# Altium schematic symbol library OOLITEV8_0_2-DEV-V1_1_17_Library.SchLib: 269 symbols (part 8 of 12)
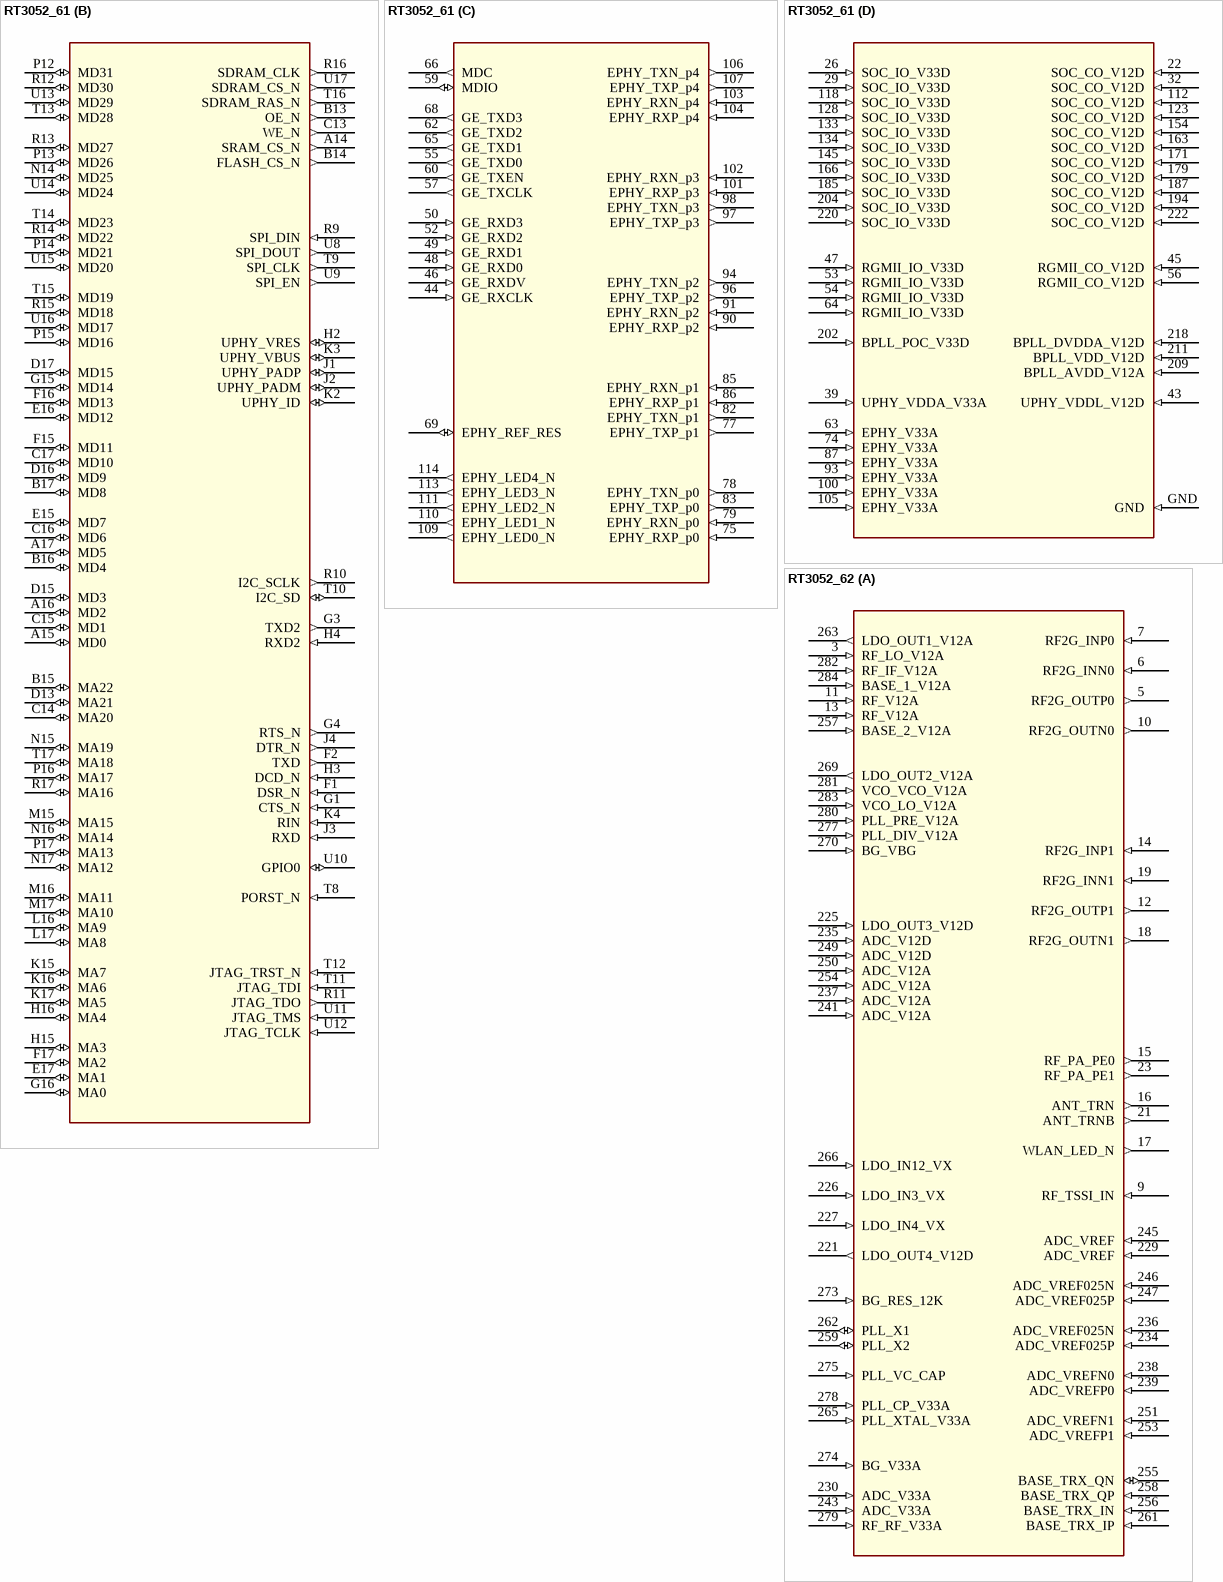
[diagram p145: symbols RT3052_61 to RT3052_62]

## RT3052_61
designator U?
footprint TFBGA289
part A pins: 3 RF_LO_V12A (in), 5 RF2G_OUTP0 (out), 6 RF2G_INN0 (in), 7 RF2G_INP0 (in), 9 RF_TSSI_IN (in), 10 RF2G_OUTN0 (out), 11 RF_V12A (in), 12 RF2G_OUTP1 (out), 13 RF_V12A (in), 14 RF2G_INP1 (in), 15 RF_PA_PE0 (out), 16 ANT_TRN (out), 17 WLAN_LED_N (out), 18 RF2G_OUTN1 (out), 19 RF2G_INN1 (in), 21 ANT_TRNB (out), 23 RF_PA_PE1 (out), 221 LDO_OUT4_V12D (out), 225 LDO_OUT3_V12D (in), 226 LDO_IN3_VX (in), 227 LDO_IN4_VX (in), 229 ADC_VREF (in), 230 ADC_V33A (in), 234 ADC_VREF025P (in), 235 ADC_V12D (in), 236 ADC_VREF025N (in), 237 ADC_V12A (in), 238 ADC_VREFN0 (in), 239 ADC_VREFP0 (in), 241 ADC_V12A (in), 243 ADC_V33A (in), 245 ADC_VREF (in), 246 ADC_VREF025N (in), 247 ADC_VREF025P (in), 249 ADC_V12D (in), 250 ADC_V12A (in), 251 ADC_VREFN1 (in), 253 ADC_VREFP1 (in), 254 ADC_V12A (in), 255 BASE_TRX_QN (io), 256 BASE_TRX_IN (in), 257 BASE_2_V12A (in), 258 BASE_TRX_QP (in), 259 PLL_X2 (io), 261 BASE_TRX_IP (in), 262 PLL_X1 (io), 263 LDO_OUT1_V12A (out), 265 PLL_XTAL_V33A (in), 266 LDO_IN12_VX (in), 269 LDO_OUT2_V12A (out), 270 BG_VBG (in), 273 BG_RES_12K (in), 274 BG_V33A (in), 275 PLL_VC_CAP (in), 277 PLL_DIV_V12A (in), 278 PLL_CP_V33A (in), 279 RF_RF_V33A (in), 280 PLL_PRE_V12A (in), 281 VCO_VCO_V12A (in), 282 RF_IF_V12A (in), 283 VCO_LO_V12A (in), 284 BASE_1_V12A (in)
part B pins: A14 SRAM_CS_N (out), A15 MD0 (io), A16 MD2 (io), A17 MD5 (io), B13 OE_N (out), B14 FLASH_CS_N (out), B15 MA22 (io), B16 MD4 (io), B17 MD8 (io), C13 WE_N (out), C14 MA20 (io), C15 MD1 (io), C16 MD6 (io), C17 MD10 (io), D13 MA21 (io), D15 MD3 (io), D16 MD9 (io), D17 MD15 (io), E15 MD7 (io), E16 MD12 (io), E17 MA1 (io), F1 DSR_N (in), F2 TXD (out), F15 MD11 (io), F16 MD13 (io), F17 MA2 (io), G1 CTS_N (in), G3 TXD2 (out), G4 RTS_N (out), G15 MD14 (io), G16 MA0 (io), H2 UPHY_VRES (io), H3 DCD_N (in), H4 RXD2 (in), H15 MA3 (io), H16 MA4 (io), J1 UPHY_PADP (io), J2 UPHY_PADM (io), J3 RXD (in), J4 DTR_N (out), K2 UPHY_ID (io), K3 UPHY_VBUS (io), K4 RIN (in), K15 MA7 (io), K16 MA6 (io), K17 MA5 (io), L16 MA9 (io), L17 MA8 (io), M15 MA15 (io), M16 MA11 (io), M17 MA10 (io), N14 MD25 (io), N15 MA19 (io), N16 MA14 (io), N17 MA12 (io), P12 MD31 (io), P13 MD26 (io), P14 MD21 (io), P15 MD16 (io), P16 MA17 (io), P17 MA13 (io), R9 SPI_DIN (in), R10 I2C_SCLK (out), R11 JTAG_TDO (out), R12 MD30 (io), R13 MD27 (io), R14 MD22 (io), R15 MD18 (io), R16 SDRAM_CLK (out), R17 MA16 (io), T8 PORST_N (in), T9 SPI_CLK (out), T10 I2C_SD (io), T11 JTAG_TDI (in), T12 JTAG_TRST_N (in), T13 MD28 (io), T14 MD23 (io), T15 MD19 (io), T16 SDRAM_RAS_N (out), T17 MA18 (io), U8 SPI_DOUT (out), U9 SPI_EN (out), U10 GPIO0 (io), U11 JTAG_TMS (in), U12 JTAG_TCLK (in), U13 MD29 (io), U14 MD24 (io), U15 MD20 (io), U16 MD17 (io), U17 SDRAM_CS_N (out)
part C pins: 44 GE_RXCLK (in), 46 GE_RXDV (in), 48 GE_RXD0 (in), 49 GE_RXD1 (in), 50 GE_RXD3 (in), 52 GE_RXD2 (in), 55 GE_TXD0 (out), 57 GE_TXCLK (out), 59 MDIO (io), 60 GE_TXEN (out), 62 GE_TXD2 (out), 65 GE_TXD1 (out), 66 MDC (out), 68 GE_TXD3 (out), 69 EPHY_REF_RES (io), 75 EPHY_RXP_p0 (in), 77 EPHY_TXP_p1 (out), 78 EPHY_TXN_p0 (out), 79 EPHY_RXN_p0 (in), 82 EPHY_TXN_p1 (out), 83 EPHY_TXP_p0 (out), 85 EPHY_RXN_p1 (in), 86 EPHY_RXP_p1 (in), 90 EPHY_RXP_p2 (in), 91 EPHY_RXN_p2 (in), 94 EPHY_TXN_p2 (out), 96 EPHY_TXP_p2 (out), 97 EPHY_TXP_p3 (out), 98 EPHY_TXN_p3 (out), 101 EPHY_RXP_p3 (in), 102 EPHY_RXN_p3 (in), 103 EPHY_RXN_p4 (in), 104 EPHY_RXP_p4 (in), 106 EPHY_TXN_p4 (out), 107 EPHY_TXP_p4 (out), 109 EPHY_LED0_N (out), 110 EPHY_LED1_N (out), 111 EPHY_LED2_N (out), 113 EPHY_LED3_N (out), 114 EPHY_LED4_N (out)
part D pins: 22 SOC_CO_V12D (in), 26 SOC_IO_V33D (in), 29 SOC_IO_V33D (in), 32 SOC_CO_V12D (in), 39 UPHY_VDDA_V33A (in), 43 UPHY_VDDL_V12D (in), 45 RGMII_CO_V12D (in), 47 RGMII_IO_V33D (in), 53 RGMII_IO_V33D (in), 54 RGMII_IO_V33D (in), 56 RGMII_CO_V12D (in), 63 EPHY_V33A (in), 64 RGMII_IO_V33D (in), 74 EPHY_V33A (in), 87 EPHY_V33A (in), 93 EPHY_V33A (in), 100 EPHY_V33A (in), 105 EPHY_V33A (in), 112 SOC_CO_V12D (in), 118 SOC_IO_V33D (in), 123 SOC_CO_V12D (in), 128 SOC_IO_V33D (in), 133 SOC_IO_V33D (in), 134 SOC_IO_V33D (in), 145 SOC_IO_V33D (in), 154 SOC_CO_V12D (in), 163 SOC_CO_V12D (in), 166 SOC_IO_V33D (in), 171 SOC_CO_V12D (in), 179 SOC_CO_V12D (in), 185 SOC_IO_V33D (in), 187 SOC_CO_V12D (in), 194 SOC_CO_V12D (in), 202 BPLL_POC_V33D (in), 204 SOC_IO_V33D (in), 209 BPLL_AVDD_V12A (in), 211 BPLL_VDD_V12D (in), 218 BPLL_DVDDA_V12D (in), 220 SOC_IO_V33D (in), 222 SOC_CO_V12D (in), GND (in)

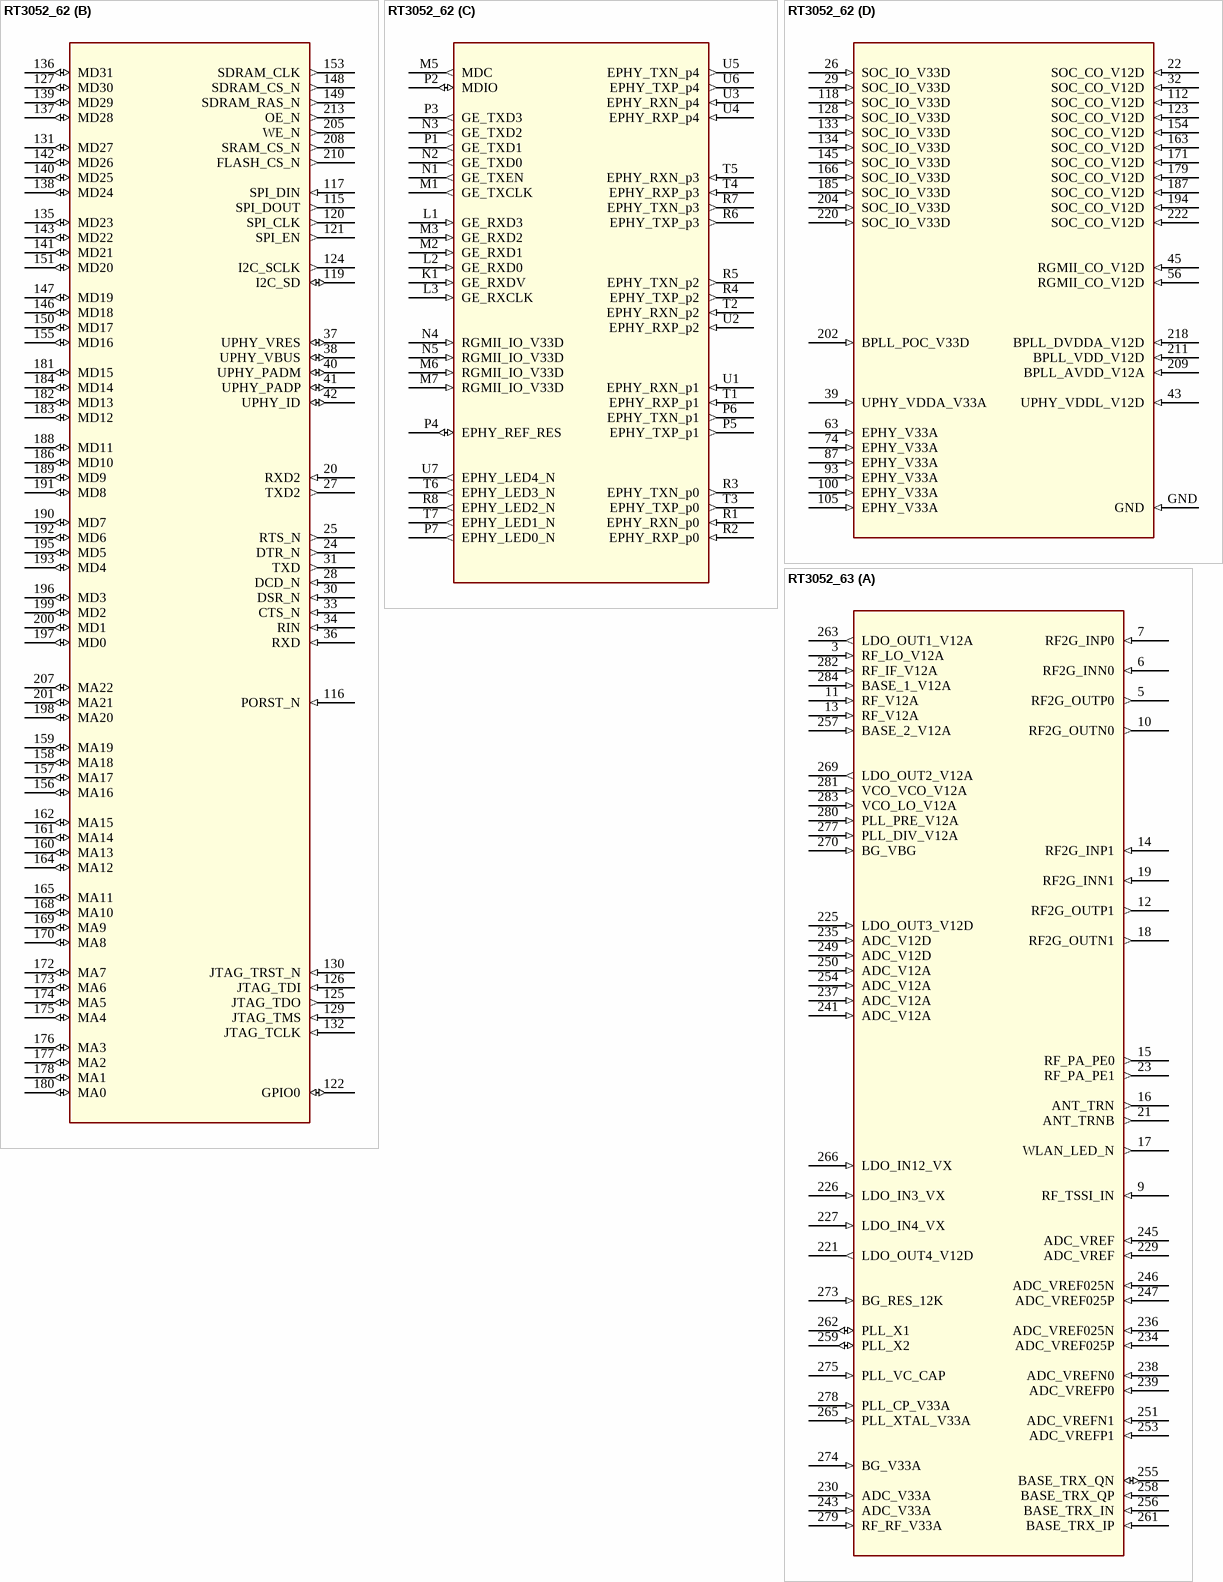
[diagram p79: symbols RT3052_62 to RT3052_63]

## RT3052_62
designator U?
footprint TFBGA289
part A pins: 3 RF_LO_V12A (in), 5 RF2G_OUTP0 (out), 6 RF2G_INN0 (in), 7 RF2G_INP0 (in), 9 RF_TSSI_IN (in), 10 RF2G_OUTN0 (out), 11 RF_V12A (in), 12 RF2G_OUTP1 (out), 13 RF_V12A (in), 14 RF2G_INP1 (in), 15 RF_PA_PE0 (out), 16 ANT_TRN (out), 17 WLAN_LED_N (out), 18 RF2G_OUTN1 (out), 19 RF2G_INN1 (in), 21 ANT_TRNB (out), 23 RF_PA_PE1 (out), 221 LDO_OUT4_V12D (out), 225 LDO_OUT3_V12D (in), 226 LDO_IN3_VX (in), 227 LDO_IN4_VX (in), 229 ADC_VREF (in), 230 ADC_V33A (in), 234 ADC_VREF025P (in), 235 ADC_V12D (in), 236 ADC_VREF025N (in), 237 ADC_V12A (in), 238 ADC_VREFN0 (in), 239 ADC_VREFP0 (in), 241 ADC_V12A (in), 243 ADC_V33A (in), 245 ADC_VREF (in), 246 ADC_VREF025N (in), 247 ADC_VREF025P (in), 249 ADC_V12D (in), 250 ADC_V12A (in), 251 ADC_VREFN1 (in), 253 ADC_VREFP1 (in), 254 ADC_V12A (in), 255 BASE_TRX_QN (io), 256 BASE_TRX_IN (in), 257 BASE_2_V12A (in), 258 BASE_TRX_QP (in), 259 PLL_X2 (io), 261 BASE_TRX_IP (in), 262 PLL_X1 (io), 263 LDO_OUT1_V12A (out), 265 PLL_XTAL_V33A (in), 266 LDO_IN12_VX (in), 269 LDO_OUT2_V12A (out), 270 BG_VBG (in), 273 BG_RES_12K (in), 274 BG_V33A (in), 275 PLL_VC_CAP (in), 277 PLL_DIV_V12A (in), 278 PLL_CP_V33A (in), 279 RF_RF_V33A (in), 280 PLL_PRE_V12A (in), 281 VCO_VCO_V12A (in), 282 RF_IF_V12A (in), 283 VCO_LO_V12A (in), 284 BASE_1_V12A (in)
part B pins: 20 RXD2 (in), 24 DTR_N (out), 25 RTS_N (out), 27 TXD2 (out), 28 DCD_N (in), 30 DSR_N (in), 31 TXD (out), 33 CTS_N (in), 34 RIN (in), 36 RXD (in), 37 UPHY_VRES (io), 38 UPHY_VBUS (io), 40 UPHY_PADM (io), 41 UPHY_PADP (io), 42 UPHY_ID (io), 115 SPI_DOUT (out), 116 PORST_N (in), 117 SPI_DIN (in), 119 I2C_SD (io), 120 SPI_CLK (out), 121 SPI_EN (out), 122 GPIO0 (io), 124 I2C_SCLK (out), 125 JTAG_TDO (out), 126 JTAG_TDI (in), 127 MD30 (io), 129 JTAG_TMS (in), 130 JTAG_TRST_N (in), 131 MD27 (io), 132 JTAG_TCLK (in), 135 MD23 (io), 136 MD31 (io), 137 MD28 (io), 138 MD24 (io), 139 MD29 (io), 140 MD25 (io), 141 MD21 (io), 142 MD26 (io), 143 MD22 (io), 146 MD18 (io), 147 MD19 (io), 148 SDRAM_CS_N (out), 149 SDRAM_RAS_N (out), 150 MD17 (io), 151 MD20 (io), 153 SDRAM_CLK (out), 155 MD16 (io), 156 MA16 (io), 157 MA17 (io), 158 MA18 (io), 159 MA19 (io), 160 MA13 (io), 161 MA14 (io), 162 MA15 (io), 164 MA12 (io), 165 MA11 (io), 168 MA10 (io), 169 MA9 (io), 170 MA8 (io), 172 MA7 (io), 173 MA6 (io), 174 MA5 (io), 175 MA4 (io), 176 MA3 (io), 177 MA2 (io), 178 MA1 (io), 180 MA0 (io), 181 MD15 (io), 182 MD13 (io), 183 MD12 (io), 184 MD14 (io), 186 MD10 (io), 188 MD11 (io), 189 MD9 (io), 190 MD7 (io), 191 MD8 (io), 192 MD6 (io), 193 MD4 (io), 195 MD5 (io), 196 MD3 (io), 197 MD0 (io), 198 MA20 (io), 199 MD2 (io), 200 MD1 (io), 201 MA21 (io), 205 WE_N (out), 207 MA22 (io), 208 SRAM_CS_N (out), 210 FLASH_CS_N (out), 213 OE_N (out)
part C pins: K1 GE_RXDV (in), L1 GE_RXD3 (in), L2 GE_RXD0 (in), L3 GE_RXCLK (in), M1 GE_TXCLK (out), M2 GE_RXD1 (in), M3 GE_RXD2 (in), M5 MDC (out), M6 RGMII_IO_V33D (in), M7 RGMII_IO_V33D (in), N1 GE_TXEN (out), N2 GE_TXD0 (out), N3 GE_TXD2 (out), N4 RGMII_IO_V33D (in), N5 RGMII_IO_V33D (in), P1 GE_TXD1 (out), P2 MDIO (io), P3 GE_TXD3 (out), P4 EPHY_REF_RES (io), P5 EPHY_TXP_p1 (out), P6 EPHY_TXN_p1 (out), P7 EPHY_LED0_N (out), R1 EPHY_RXN_p0 (in), R2 EPHY_RXP_p0 (in), R3 EPHY_TXN_p0 (out), R4 EPHY_TXP_p2 (out), R5 EPHY_TXN_p2 (out), R6 EPHY_TXP_p3 (out), R7 EPHY_TXN_p3 (out), R8 EPHY_LED2_N (out), T1 EPHY_RXP_p1 (in), T2 EPHY_RXN_p2 (in), T3 EPHY_TXP_p0 (out), T4 EPHY_RXP_p3 (in), T5 EPHY_RXN_p3 (in), T6 EPHY_LED3_N (out), T7 EPHY_LED1_N (out), U1 EPHY_RXN_p1 (in), U2 EPHY_RXP_p2 (in), U3 EPHY_RXN_p4 (in), U4 EPHY_RXP_p4 (in), U5 EPHY_TXN_p4 (out), U6 EPHY_TXP_p4 (out), U7 EPHY_LED4_N (out)
part D pins: 22 SOC_CO_V12D (in), 26 SOC_IO_V33D (in), 29 SOC_IO_V33D (in), 32 SOC_CO_V12D (in), 39 UPHY_VDDA_V33A (in), 43 UPHY_VDDL_V12D (in), 45 RGMII_CO_V12D (in), 56 RGMII_CO_V12D (in), 63 EPHY_V33A (in), 74 EPHY_V33A (in), 87 EPHY_V33A (in), 93 EPHY_V33A (in), 100 EPHY_V33A (in), 105 EPHY_V33A (in), 112 SOC_CO_V12D (in), 118 SOC_IO_V33D (in), 123 SOC_CO_V12D (in), 128 SOC_IO_V33D (in), 133 SOC_IO_V33D (in), 134 SOC_IO_V33D (in), 145 SOC_IO_V33D (in), 154 SOC_CO_V12D (in), 163 SOC_CO_V12D (in), 166 SOC_IO_V33D (in), 171 SOC_CO_V12D (in), 179 SOC_CO_V12D (in), 185 SOC_IO_V33D (in), 187 SOC_CO_V12D (in), 194 SOC_CO_V12D (in), 202 BPLL_POC_V33D (in), 204 SOC_IO_V33D (in), 209 BPLL_AVDD_V12A (in), 211 BPLL_VDD_V12D (in), 218 BPLL_DVDDA_V12D (in), 220 SOC_IO_V33D (in), 222 SOC_CO_V12D (in), GND (in)

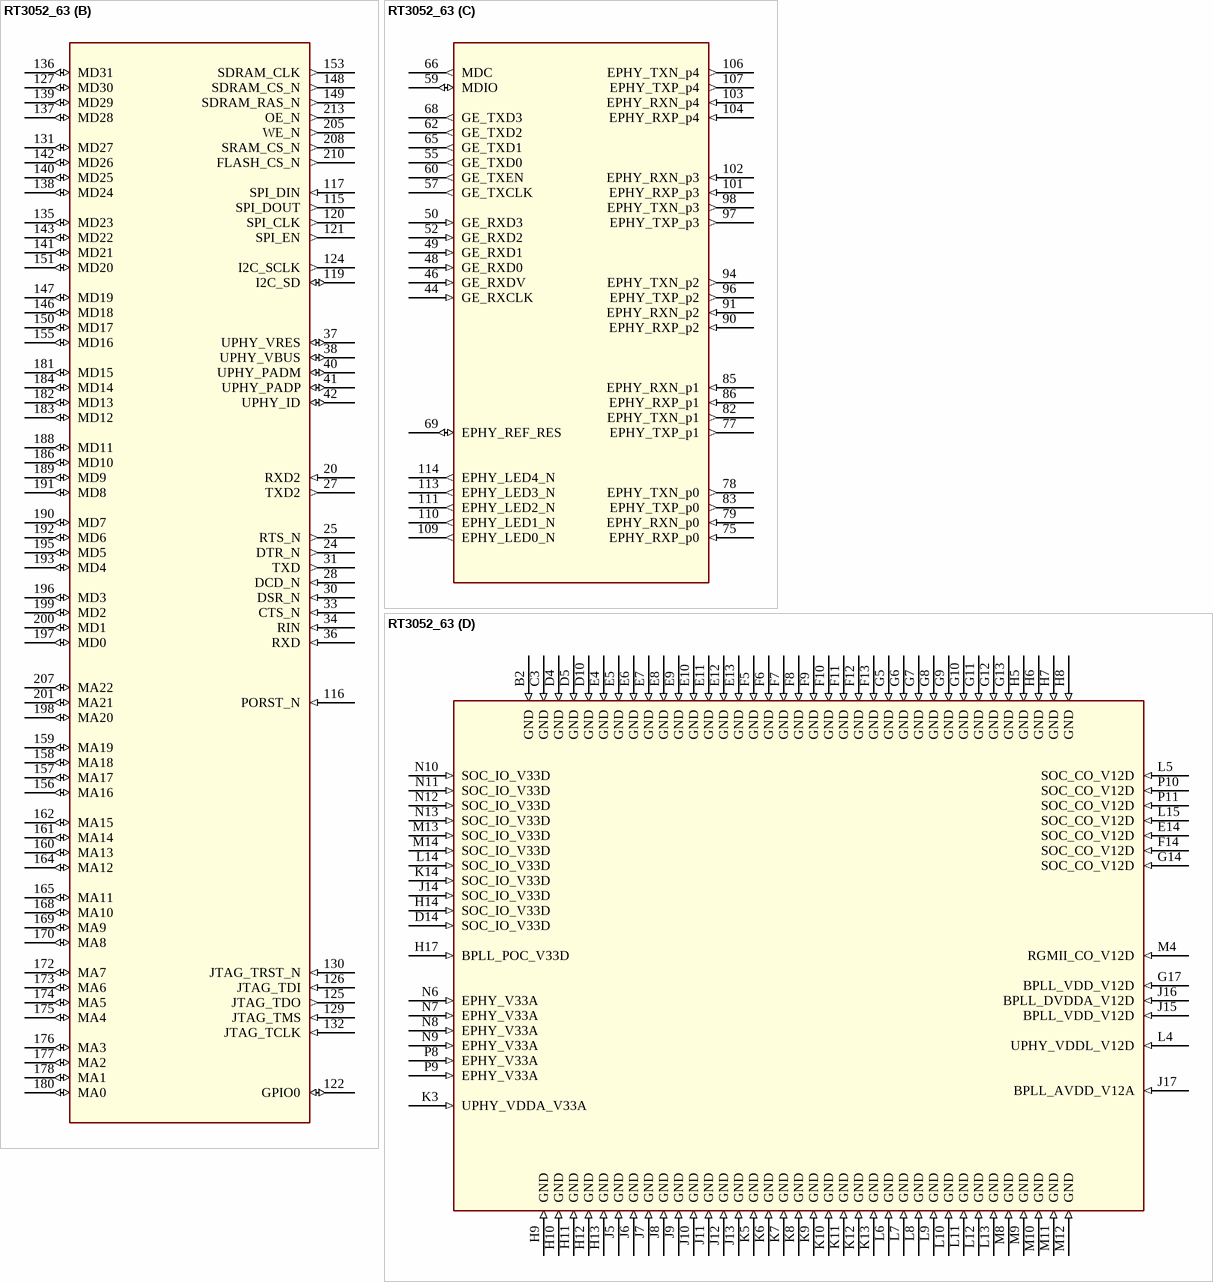
[diagram p80: symbol RT3052_63]

## RT3052_63
designator U?
footprint TFBGA289
part A pins: 3 RF_LO_V12A (in), 5 RF2G_OUTP0 (out), 6 RF2G_INN0 (in), 7 RF2G_INP0 (in), 9 RF_TSSI_IN (in), 10 RF2G_OUTN0 (out), 11 RF_V12A (in), 12 RF2G_OUTP1 (out), 13 RF_V12A (in), 14 RF2G_INP1 (in), 15 RF_PA_PE0 (out), 16 ANT_TRN (out), 17 WLAN_LED_N (out), 18 RF2G_OUTN1 (out), 19 RF2G_INN1 (in), 21 ANT_TRNB (out), 23 RF_PA_PE1 (out), 221 LDO_OUT4_V12D (out), 225 LDO_OUT3_V12D (in), 226 LDO_IN3_VX (in), 227 LDO_IN4_VX (in), 229 ADC_VREF (in), 230 ADC_V33A (in), 234 ADC_VREF025P (in), 235 ADC_V12D (in), 236 ADC_VREF025N (in), 237 ADC_V12A (in), 238 ADC_VREFN0 (in), 239 ADC_VREFP0 (in), 241 ADC_V12A (in), 243 ADC_V33A (in), 245 ADC_VREF (in), 246 ADC_VREF025N (in), 247 ADC_VREF025P (in), 249 ADC_V12D (in), 250 ADC_V12A (in), 251 ADC_VREFN1 (in), 253 ADC_VREFP1 (in), 254 ADC_V12A (in), 255 BASE_TRX_QN (io), 256 BASE_TRX_IN (in), 257 BASE_2_V12A (in), 258 BASE_TRX_QP (in), 259 PLL_X2 (io), 261 BASE_TRX_IP (in), 262 PLL_X1 (io), 263 LDO_OUT1_V12A (out), 265 PLL_XTAL_V33A (in), 266 LDO_IN12_VX (in), 269 LDO_OUT2_V12A (out), 270 BG_VBG (in), 273 BG_RES_12K (in), 274 BG_V33A (in), 275 PLL_VC_CAP (in), 277 PLL_DIV_V12A (in), 278 PLL_CP_V33A (in), 279 RF_RF_V33A (in), 280 PLL_PRE_V12A (in), 281 VCO_VCO_V12A (in), 282 RF_IF_V12A (in), 283 VCO_LO_V12A (in), 284 BASE_1_V12A (in)
part B pins: 20 RXD2 (in), 24 DTR_N (out), 25 RTS_N (out), 27 TXD2 (out), 28 DCD_N (in), 30 DSR_N (in), 31 TXD (out), 33 CTS_N (in), 34 RIN (in), 36 RXD (in), 37 UPHY_VRES (io), 38 UPHY_VBUS (io), 40 UPHY_PADM (io), 41 UPHY_PADP (io), 42 UPHY_ID (io), 115 SPI_DOUT (out), 116 PORST_N (in), 117 SPI_DIN (in), 119 I2C_SD (io), 120 SPI_CLK (out), 121 SPI_EN (out), 122 GPIO0 (io), 124 I2C_SCLK (out), 125 JTAG_TDO (out), 126 JTAG_TDI (in), 127 MD30 (io), 129 JTAG_TMS (in), 130 JTAG_TRST_N (in), 131 MD27 (io), 132 JTAG_TCLK (in), 135 MD23 (io), 136 MD31 (io), 137 MD28 (io), 138 MD24 (io), 139 MD29 (io), 140 MD25 (io), 141 MD21 (io), 142 MD26 (io), 143 MD22 (io), 146 MD18 (io), 147 MD19 (io), 148 SDRAM_CS_N (out), 149 SDRAM_RAS_N (out), 150 MD17 (io), 151 MD20 (io), 153 SDRAM_CLK (out), 155 MD16 (io), 156 MA16 (io), 157 MA17 (io), 158 MA18 (io), 159 MA19 (io), 160 MA13 (io), 161 MA14 (io), 162 MA15 (io), 164 MA12 (io), 165 MA11 (io), 168 MA10 (io), 169 MA9 (io), 170 MA8 (io), 172 MA7 (io), 173 MA6 (io), 174 MA5 (io), 175 MA4 (io), 176 MA3 (io), 177 MA2 (io), 178 MA1 (io), 180 MA0 (io), 181 MD15 (io), 182 MD13 (io), 183 MD12 (io), 184 MD14 (io), 186 MD10 (io), 188 MD11 (io), 189 MD9 (io), 190 MD7 (io), 191 MD8 (io), 192 MD6 (io), 193 MD4 (io), 195 MD5 (io), 196 MD3 (io), 197 MD0 (io), 198 MA20 (io), 199 MD2 (io), 200 MD1 (io), 201 MA21 (io), 205 WE_N (out), 207 MA22 (io), 208 SRAM_CS_N (out), 210 FLASH_CS_N (out), 213 OE_N (out)
part C pins: 44 GE_RXCLK (in), 46 GE_RXDV (in), 48 GE_RXD0 (in), 49 GE_RXD1 (in), 50 GE_RXD3 (in), 52 GE_RXD2 (in), 55 GE_TXD0 (out), 57 GE_TXCLK (out), 59 MDIO (io), 60 GE_TXEN (out), 62 GE_TXD2 (out), 65 GE_TXD1 (out), 66 MDC (out), 68 GE_TXD3 (out), 69 EPHY_REF_RES (io), 75 EPHY_RXP_p0 (in), 77 EPHY_TXP_p1 (out), 78 EPHY_TXN_p0 (out), 79 EPHY_RXN_p0 (in), 82 EPHY_TXN_p1 (out), 83 EPHY_TXP_p0 (out), 85 EPHY_RXN_p1 (in), 86 EPHY_RXP_p1 (in), 90 EPHY_RXP_p2 (in), 91 EPHY_RXN_p2 (in), 94 EPHY_TXN_p2 (out), 96 EPHY_TXP_p2 (out), 97 EPHY_TXP_p3 (out), 98 EPHY_TXN_p3 (out), 101 EPHY_RXP_p3 (in), 102 EPHY_RXN_p3 (in), 103 EPHY_RXN_p4 (in), 104 EPHY_RXP_p4 (in), 106 EPHY_TXN_p4 (out), 107 EPHY_TXP_p4 (out), 109 EPHY_LED0_N (out), 110 EPHY_LED1_N (out), 111 EPHY_LED2_N (out), 113 EPHY_LED3_N (out), 114 EPHY_LED4_N (out)
part D pins: B2 GND (in), C3 GND (in), D4 GND (in), D5 GND (in), D10 GND (in), D14 SOC_IO_V33D (in), E4 GND (in), E5 GND (in), E6 GND (in), E7 GND (in), E8 GND (in), E9 GND (in), E10 GND (in), E11 GND (in), E12 GND (in), E13 GND (in), E14 SOC_CO_V12D (in), F5 GND (in), F6 GND (in), F7 GND (in), F8 GND (in), F9 GND (in), F10 GND (in), F11 GND (in), F12 GND (in), F13 GND (in), F14 SOC_CO_V12D (in), G5 GND (in), G6 GND (in), G7 GND (in), G8 GND (in), G9 GND (in), G10 GND (in), G11 GND (in), G12 GND (in), G13 GND (in), G14 SOC_CO_V12D (in), G17 BPLL_VDD_V12D (in), H5 GND (in), H6 GND (in), H7 GND (in), H8 GND (in), H9 GND (in), H10 GND (in), H11 GND (in), H12 GND (in), H13 GND (in), H14 SOC_IO_V33D (in), H17 BPLL_POC_V33D (in), J5 GND (in), J6 GND (in), J7 GND (in), J8 GND (in), J9 GND (in), J10 GND (in), J11 GND (in), J12 GND (in), J13 GND (in), J14 SOC_IO_V33D (in), J15 BPLL_VDD_V12D (in), J16 BPLL_DVDDA_V12D (in), J17 BPLL_AVDD_V12A (in), K3 UPHY_VDDA_V33A (in), K5 GND (in), K6 GND (in), K7 GND (in), K8 GND (in), K9 GND (in), K10 GND (in), K11 GND (in), K12 GND (in), K13 GND (in), K14 SOC_IO_V33D (in), L4 UPHY_VDDL_V12D (in), L5 SOC_CO_V12D (in), L6 GND (in), L7 GND (in), L8 GND (in), L9 GND (in), L10 GND (in), L11 GND (in), L12 GND (in), L13 GND (in), L14 SOC_IO_V33D (in), L15 SOC_CO_V12D (in), M4 RGMII_CO_V12D (in), M8 GND (in), M9 GND (in), M10 GND (in), M11 GND (in), M12 GND (in), M13 SOC_IO_V33D (in), M14 SOC_IO_V33D (in), N6 EPHY_V33A (in), N7 EPHY_V33A (in), N8 EPHY_V33A (in), N9 EPHY_V33A (in), N10 SOC_IO_V33D (in), N11 SOC_IO_V33D (in), N12 SOC_IO_V33D (in), N13 SOC_IO_V33D (in), P8 EPHY_V33A (in), P9 EPHY_V33A (in), P10 SOC_CO_V12D (in), P11 SOC_CO_V12D (in)

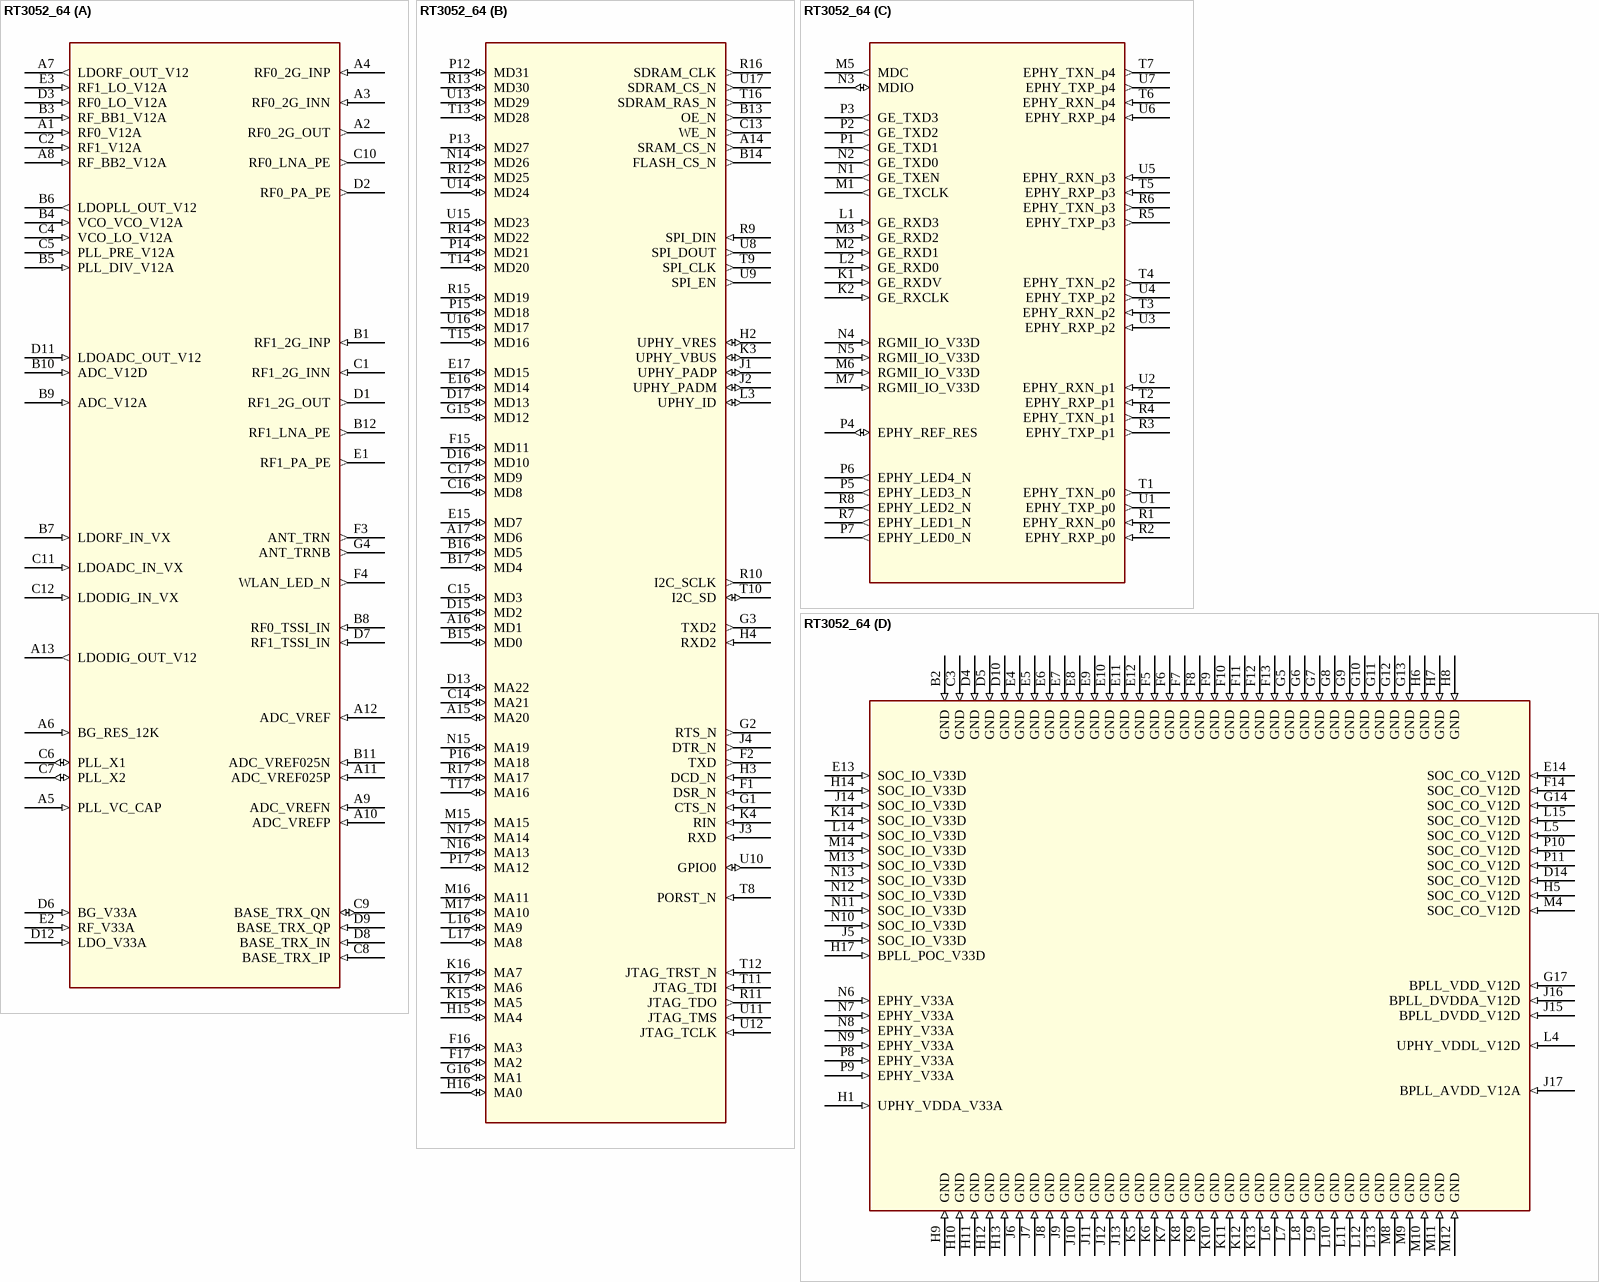
[diagram p81: symbol RT3052_64]

## RT3052_64
designator U?
footprint TFBGA289
part A pins: A1 RF0_V12A (in), A2 RF0_2G_OUT (out), A3 RF0_2G_INN (in), A4 RF0_2G_INP (in), A5 PLL_VC_CAP (in), A6 BG_RES_12K (in), A7 LDORF_OUT_V12 (out), A8 RF_BB2_V12A (in), A9 ADC_VREFN (in), A10 ADC_VREFP (in), A11 ADC_VREF025P (in), A12 ADC_VREF (in), A13 LDODIG_OUT_V12 (out), B1 RF1_2G_INP (in), B3 RF_BB1_V12A (in), B4 VCO_VCO_V12A (in), B5 PLL_DIV_V12A (in), B6 LDOPLL_OUT_V12 (out), B7 LDORF_IN_VX (in), B8 RF0_TSSI_IN (in), B9 ADC_V12A (in), B10 ADC_V12D (in), B11 ADC_VREF025N (in), B12 RF1_LNA_PE (out), C1 RF1_2G_INN (in), C2 RF1_V12A (in), C4 VCO_LO_V12A (in), C5 PLL_PRE_V12A (in), C6 PLL_X1 (io), C7 PLL_X2 (io), C8 BASE_TRX_IP (in), C9 BASE_TRX_QN (io), C10 RF0_LNA_PE (out), C11 LDOADC_IN_VX (in), C12 LDODIG_IN_VX (in), D1 RF1_2G_OUT (out), D2 RF0_PA_PE (out), D3 RF0_LO_V12A (in), D6 BG_V33A (in), D7 RF1_TSSI_IN (in), D8 BASE_TRX_IN (in), D9 BASE_TRX_QP (in), D11 LDOADC_OUT_V12 (in), D12 LDO_V33A (in), E1 RF1_PA_PE (out), E2 RF_V33A (in), E3 RF1_LO_V12A (in), F3 ANT_TRN (out), F4 WLAN_LED_N (out), G4 ANT_TRNB (out)
part B pins: A14 SRAM_CS_N (out), A15 MA20 (io), A16 MD1 (io), A17 MD6 (io), B13 OE_N (out), B14 FLASH_CS_N (out), B15 MD0 (io), B16 MD5 (io), B17 MD4 (io), C13 WE_N (out), C14 MA21 (io), C15 MD3 (io), C16 MD8 (io), C17 MD9 (io), D13 MA22 (io), D15 MD2 (io), D16 MD10 (io), D17 MD13 (io), E15 MD7 (io), E16 MD14 (io), E17 MD15 (io), F1 DSR_N (in), F2 TXD (out), F15 MD11 (io), F16 MA3 (io), F17 MA2 (io), G1 CTS_N (in), G2 RTS_N (out), G3 TXD2 (out), G15 MD12 (io), G16 MA1 (io), H2 UPHY_VRES (io), H3 DCD_N (in), H4 RXD2 (in), H15 MA4 (io), H16 MA0 (io), J1 UPHY_PADP (io), J2 UPHY_PADM (io), J3 RXD (in), J4 DTR_N (out), K3 UPHY_VBUS (io), K4 RIN (in), K15 MA5 (io), K16 MA7 (io), K17 MA6 (io), L3 UPHY_ID (io), L16 MA9 (io), L17 MA8 (io), M15 MA15 (io), M16 MA11 (io), M17 MA10 (io), N14 MD26 (io), N15 MA19 (io), N16 MA13 (io), N17 MA14 (io), P12 MD31 (io), P13 MD27 (io), P14 MD21 (io), P15 MD18 (io), P16 MA18 (io), P17 MA12 (io), R9 SPI_DIN (in), R10 I2C_SCLK (out), R11 JTAG_TDO (out), R12 MD25 (io), R13 MD30 (io), R14 MD22 (io), R15 MD19 (io), R16 SDRAM_CLK (out), R17 MA17 (io), T8 PORST_N (in), T9 SPI_CLK (out), T10 I2C_SD (io), T11 JTAG_TDI (in), T12 JTAG_TRST_N (in), T13 MD28 (io), T14 MD20 (io), T15 MD16 (io), T16 SDRAM_RAS_N (out), T17 MA16 (io), U8 SPI_DOUT (out), U9 SPI_EN (out), U10 GPIO0 (io), U11 JTAG_TMS (in), U12 JTAG_TCLK (in), U13 MD29 (io), U14 MD24 (io), U15 MD23 (io), U16 MD17 (io), U17 SDRAM_CS_N (out)
part C pins: K1 GE_RXDV (in), K2 GE_RXCLK (in), L1 GE_RXD3 (in), L2 GE_RXD0 (in), M1 GE_TXCLK (out), M2 GE_RXD1 (in), M3 GE_RXD2 (in), M5 MDC (out), M6 RGMII_IO_V33D (in), M7 RGMII_IO_V33D (in), N1 GE_TXEN (out), N2 GE_TXD0 (out), N3 MDIO (io), N4 RGMII_IO_V33D (in), N5 RGMII_IO_V33D (in), P1 GE_TXD1 (out), P2 GE_TXD2 (out), P3 GE_TXD3 (out), P4 EPHY_REF_RES (io), P5 EPHY_LED3_N (out), P6 EPHY_LED4_N (out), P7 EPHY_LED0_N (out), R1 EPHY_RXN_p0 (in), R2 EPHY_RXP_p0 (in), R3 EPHY_TXP_p1 (out), R4 EPHY_TXN_p1 (out), R5 EPHY_TXP_p3 (out), R6 EPHY_TXN_p3 (out), R7 EPHY_LED1_N (out), R8 EPHY_LED2_N (out), T1 EPHY_TXN_p0 (out), T2 EPHY_RXP_p1 (in), T3 EPHY_RXN_p2 (in), T4 EPHY_TXN_p2 (out), T5 EPHY_RXP_p3 (in), T6 EPHY_RXN_p4 (in), T7 EPHY_TXN_p4 (out), U1 EPHY_TXP_p0 (out), U2 EPHY_RXN_p1 (in), U3 EPHY_RXP_p2 (in), U4 EPHY_TXP_p2 (out), U5 EPHY_RXN_p3 (in), U6 EPHY_RXP_p4 (in), U7 EPHY_TXP_p4 (out)
part D pins: B2 GND (in), C3 GND (in), D4 GND (in), D5 GND (in), D10 GND (in), D14 SOC_CO_V12D (in), E4 GND (in), E5 GND (in), E6 GND (in), E7 GND (in), E8 GND (in), E9 GND (in), E10 GND (in), E11 GND (in), E12 GND (in), E13 SOC_IO_V33D (in), E14 SOC_CO_V12D (in), F5 GND (in), F6 GND (in), F7 GND (in), F8 GND (in), F9 GND (in), F10 GND (in), F11 GND (in), F12 GND (in), F13 GND (in), F14 SOC_CO_V12D (in), G5 GND (in), G6 GND (in), G7 GND (in), G8 GND (in), G9 GND (in), G10 GND (in), G11 GND (in), G12 GND (in), G13 GND (in), G14 SOC_CO_V12D (in), G17 BPLL_VDD_V12D (in), H1 UPHY_VDDA_V33A (in), H5 SOC_CO_V12D (in), H6 GND (in), H7 GND (in), H8 GND (in), H9 GND (in), H10 GND (in), H11 GND (in), H12 GND (in), H13 GND (in), H14 SOC_IO_V33D (in), H17 BPLL_POC_V33D (in), J5 SOC_IO_V33D (in), J6 GND (in), J7 GND (in), J8 GND (in), J9 GND (in), J10 GND (in), J11 GND (in), J12 GND (in), J13 GND (in), J14 SOC_IO_V33D (in), J15 BPLL_DVDD_V12D (in), J16 BPLL_DVDDA_V12D (in), J17 BPLL_AVDD_V12A (in), K5 GND (in), K6 GND (in), K7 GND (in), K8 GND (in), K9 GND (in), K10 GND (in), K11 GND (in), K12 GND (in), K13 GND (in), K14 SOC_IO_V33D (in), L4 UPHY_VDDL_V12D (in), L5 SOC_CO_V12D (in), L6 GND (in), L7 GND (in), L8 GND (in), L9 GND (in), L10 GND (in), L11 GND (in), L12 GND (in), L13 GND (in), L14 SOC_IO_V33D (in), L15 SOC_CO_V12D (in), M4 SOC_CO_V12D (in), M8 GND (in), M9 GND (in), M10 GND (in), M11 GND (in), M12 GND (in), M13 SOC_IO_V33D (in), M14 SOC_IO_V33D (in), N6 EPHY_V33A (in), N7 EPHY_V33A (in), N8 EPHY_V33A (in), N9 EPHY_V33A (in), N10 SOC_IO_V33D (in), N11 SOC_IO_V33D (in), N12 SOC_IO_V33D (in), N13 SOC_IO_V33D (in), P8 EPHY_V33A (in), P9 EPHY_V33A (in), P10 SOC_CO_V12D (in), P11 SOC_CO_V12D (in)

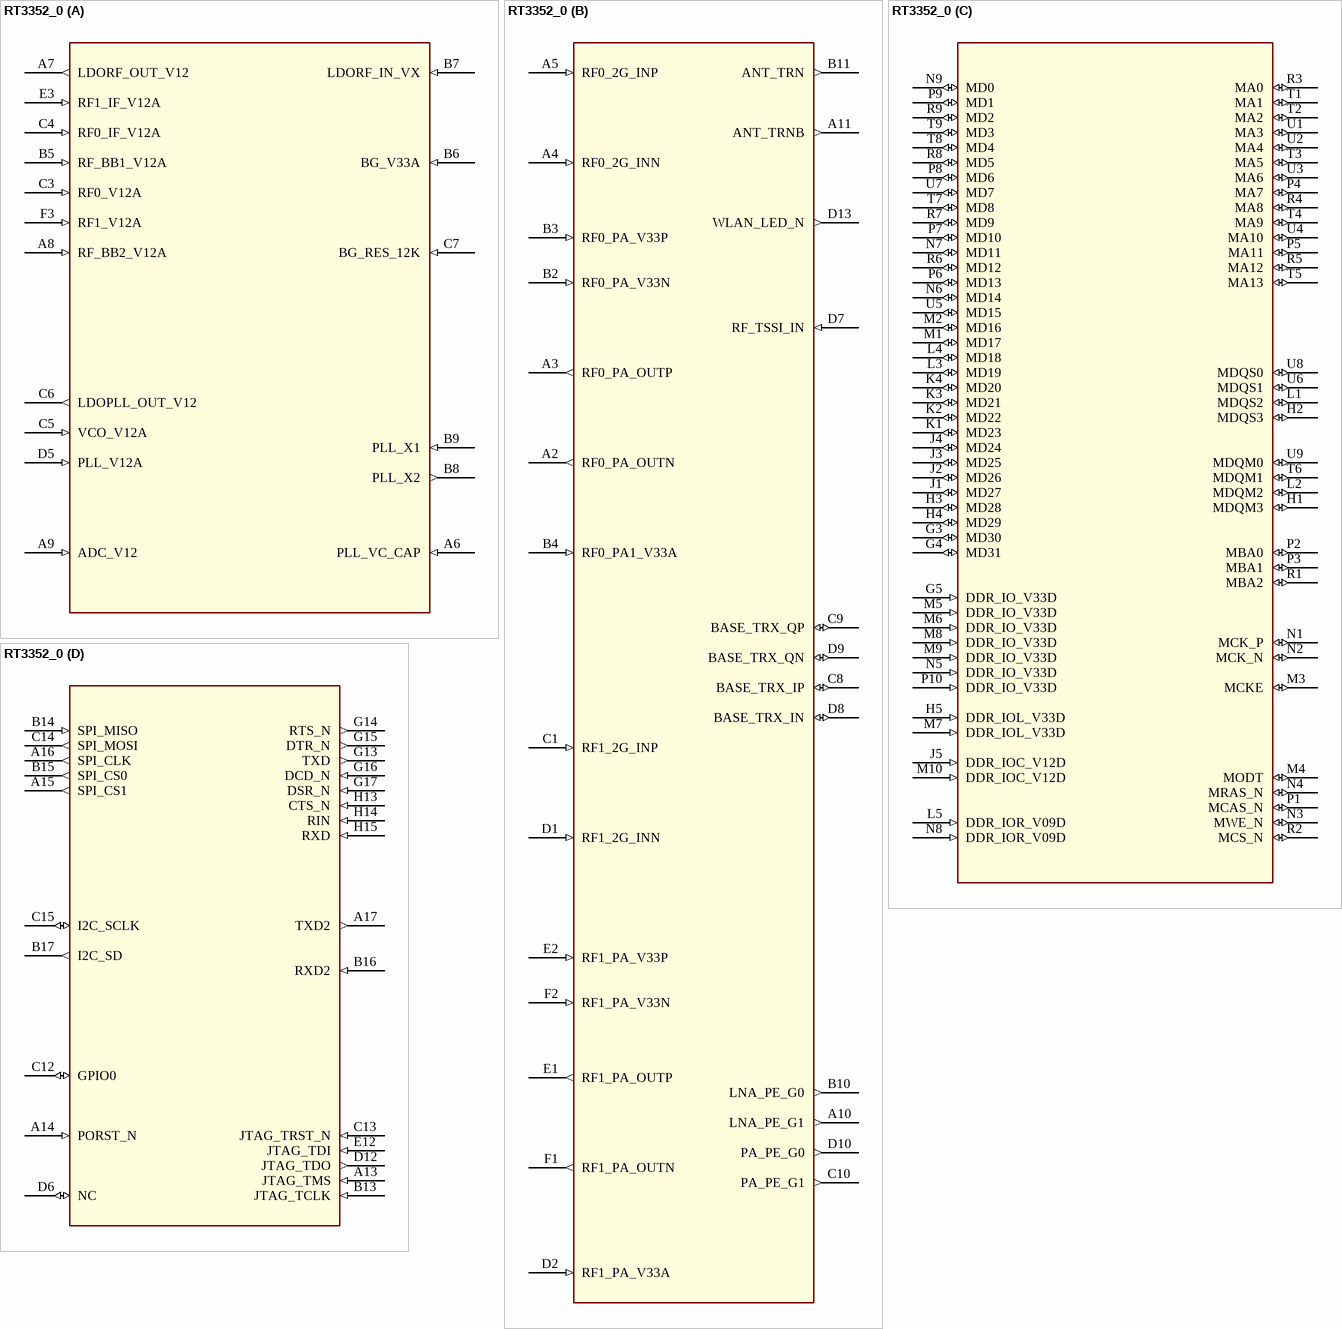
[diagram p82: symbol RT3352_0]

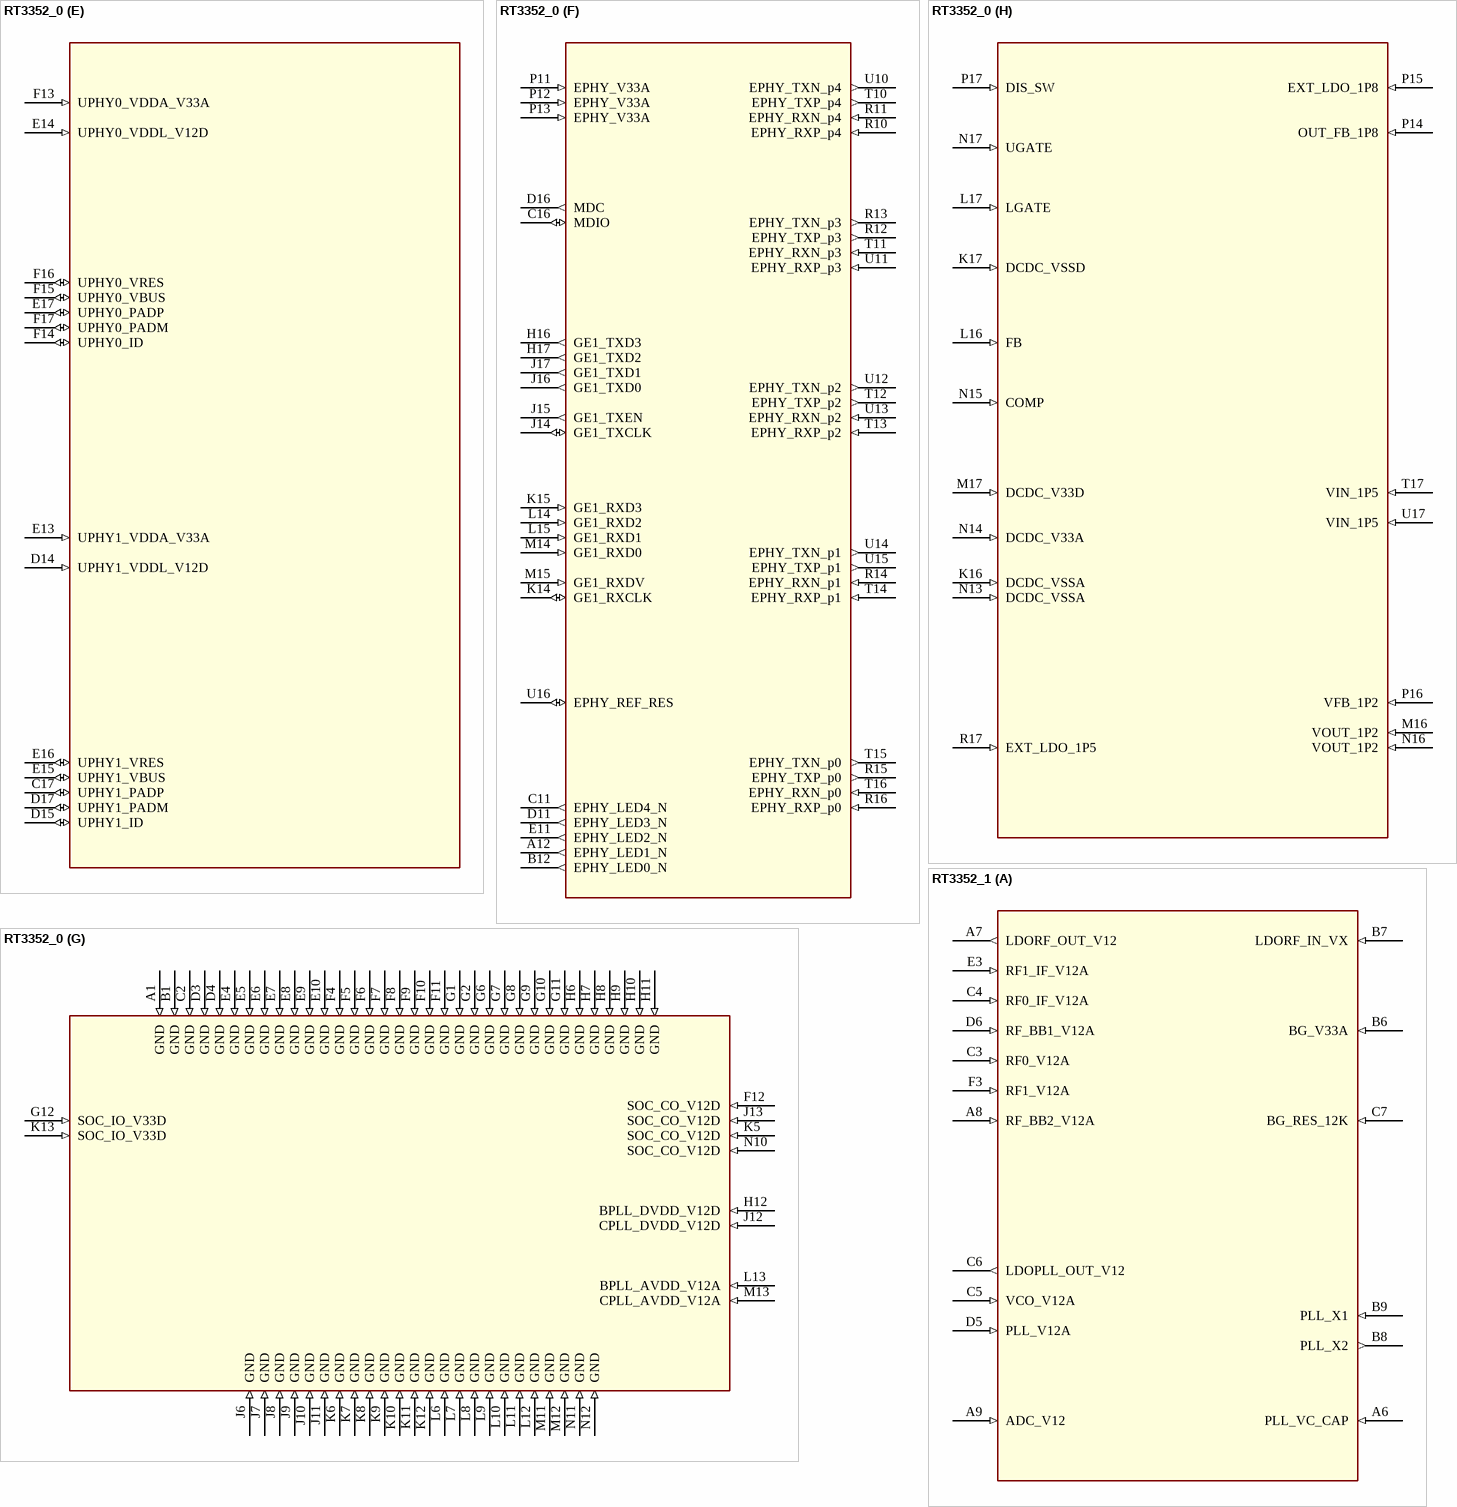
[diagram p83: symbols RT3352_0 to RT3352_1]

## RT3352_0
designator U?
part A pins: A6 PLL_VC_CAP (in), A7 LDORF_OUT_V12 (out), A8 RF_BB2_V12A (in), A9 ADC_V12 (in), B5 RF_BB1_V12A (in), B6 BG_V33A (in), B7 LDORF_IN_VX (in), B8 PLL_X2 (out), B9 PLL_X1 (in), C3 RF0_V12A (in), C4 RF0_IF_V12A (in), C5 VCO_V12A (in), C6 LDOPLL_OUT_V12 (out), C7 BG_RES_12K (in), D5 PLL_V12A (in), E3 RF1_IF_V12A (in), F3 RF1_V12A (in)
part B pins: A2 RF0_PA_OUTN (out), A3 RF0_PA_OUTP (out), A4 RF0_2G_INN (in), A5 RF0_2G_INP (in), A10 LNA_PE_G1 (out), A11 ANT_TRNB (out), B2 RF0_PA_V33N (in), B3 RF0_PA_V33P (in), B4 RF0_PA1_V33A (in), B10 LNA_PE_G0 (out), B11 ANT_TRN (out), C1 RF1_2G_INP (in), C8 BASE_TRX_IP (io), C9 BASE_TRX_QP (io), C10 PA_PE_G1 (out), D1 RF1_2G_INN (in), D2 RF1_PA_V33A (in), D7 RF_TSSI_IN (in), D8 BASE_TRX_IN (io), D9 BASE_TRX_QN (io), D10 PA_PE_G0 (out), D13 WLAN_LED_N (out), E1 RF1_PA_OUTP (out), E2 RF1_PA_V33P (in), F1 RF1_PA_OUTN (out), F2 RF1_PA_V33N (in)
part C pins: G3 MD30 (io), G4 MD31 (io), G5 DDR_IO_V33D (in), H1 MDQM3 (io), H2 MDQS3 (io), H3 MD28 (io), H4 MD29 (io), H5 DDR_IOL_V33D (in), J1 MD27 (io), J2 MD26 (io), J3 MD25 (io), J4 MD24 (io), J5 DDR_IOC_V12D (in), K1 MD23 (io), K2 MD22 (io), K3 MD21 (io), K4 MD20 (io), L1 MDQS2 (io), L2 MDQM2 (io), L3 MD19 (io), L4 MD18 (io), L5 DDR_IOR_V09D (in), M1 MD17 (io), M2 MD16 (io), M3 MCKE (io), M4 MODT (io), M5 DDR_IO_V33D (in), M6 DDR_IO_V33D (in), M7 DDR_IOL_V33D (in), M8 DDR_IO_V33D (in), M9 DDR_IO_V33D (in), M10 DDR_IOC_V12D (in), N1 MCK_P (io), N2 MCK_N (io), N3 MWE_N (io), N4 MRAS_N (io), N5 DDR_IO_V33D (in), N6 MD14 (io), N7 MD11 (io), N8 DDR_IOR_V09D (in), N9 MD0 (io), P1 MCAS_N (io), P2 MBA0 (io), P3 MBA1 (io), P4 MA7 (io), P5 MA11 (io), P6 MD13 (io), P7 MD10 (io), P8 MD6 (io), P9 MD1 (io), P10 DDR_IO_V33D (in), R1 MBA2 (io), R2 MCS_N (io), R3 MA0 (io), R4 MA8 (io), R5 MA12 (io), R6 MD12 (io), R7 MD9 (io), R8 MD5 (io), R9 MD2 (io), T1 MA1 (io), T2 MA2 (io), T3 MA5 (io), T4 MA9 (io), T5 MA13 (io), T6 MDQM1 (io), T7 MD8 (io), T8 MD4 (io), T9 MD3 (io), U1 MA3 (io), U2 MA4 (io), U3 MA6 (io), U4 MA10 (io), U5 MD15 (io), U6 MDQS1 (io), U7 MD7 (io), U8 MDQS0 (io), U9 MDQM0 (io)
part D pins: A13 JTAG_TMS (in), A14 PORST_N (in), A15 SPI_CS1 (out), A16 SPI_CLK (out), A17 TXD2 (out), B13 JTAG_TCLK (in), B14 SPI_MISO (in), B15 SPI_CS0 (out), B16 RXD2 (in), B17 I2C_SD (out), C12 GPIO0 (io), C13 JTAG_TRST_N (in), C14 SPI_MOSI (out), C15 I2C_SCLK (io), D6 NC (io), D12 JTAG_TDO (out), E12 JTAG_TDI (in), G13 TXD (out), G14 RTS_N (out), G15 DTR_N (out), G16 DCD_N (in), G17 DSR_N (in), H13 CTS_N (in), H14 RIN (in), H15 RXD (in)
part E pins: C17 UPHY1_PADP (io), D14 UPHY1_VDDL_V12D (in), D15 UPHY1_ID (io), D17 UPHY1_PADM (io), E13 UPHY1_VDDA_V33A (in), E14 UPHY0_VDDL_V12D (in), E15 UPHY1_VBUS (io), E16 UPHY1_VRES (io), E17 UPHY0_PADP (io), F13 UPHY0_VDDA_V33A (in), F14 UPHY0_ID (io), F15 UPHY0_VBUS (io), F16 UPHY0_VRES (io), F17 UPHY0_PADM (io)
part F pins: A12 EPHY_LED1_N (out), B12 EPHY_LED0_N (out), C11 EPHY_LED4_N (out), C16 MDIO (io), D11 EPHY_LED3_N (out), D16 MDC (out), E11 EPHY_LED2_N (out), H16 GE1_TXD3 (out), H17 GE1_TXD2 (out), J14 GE1_TXCLK (io), J15 GE1_TXEN (out), J16 GE1_TXD0 (out), J17 GE1_TXD1 (out), K14 GE1_RXCLK (io), K15 GE1_RXD3 (in), L14 GE1_RXD2 (in), L15 GE1_RXD1 (in), M14 GE1_RXD0 (in), M15 GE1_RXDV (in), P11 EPHY_V33A (in), P12 EPHY_V33A (in), P13 EPHY_V33A (in), R10 EPHY_RXP_p4 (in), R11 EPHY_RXN_p4 (in), R12 EPHY_TXP_p3 (out), R13 EPHY_TXN_p3 (out), R14 EPHY_RXN_p1 (in), R15 EPHY_TXP_p0 (out), R16 EPHY_RXP_p0 (in), T10 EPHY_TXP_p4 (out), T11 EPHY_RXN_p3 (in), T12 EPHY_TXP_p2 (out), T13 EPHY_RXP_p2 (in), T14 EPHY_RXP_p1 (in), T15 EPHY_TXN_p0 (out), T16 EPHY_RXN_p0 (in), U10 EPHY_TXN_p4 (out), U11 EPHY_RXP_p3 (in), U12 EPHY_TXN_p2 (out), U13 EPHY_RXN_p2 (in), U14 EPHY_TXN_p1 (out), U15 EPHY_TXP_p1 (out), U16 EPHY_REF_RES (io)
part G pins: A1 GND (in), B1 GND (in), C2 GND (in), D3 GND (in), D4 GND (in), E4 GND (in), E5 GND (in), E6 GND (in), E7 GND (in), E8 GND (in), E9 GND (in), E10 GND (in), F4 GND (in), F5 GND (in), F6 GND (in), F7 GND (in), F8 GND (in), F9 GND (in), F10 GND (in), F11 GND (in), F12 SOC_CO_V12D (in), G1 GND (in), G2 GND (in), G6 GND (in), G7 GND (in), G8 GND (in), G9 GND (in), G10 GND (in), G11 GND (in), G12 SOC_IO_V33D (in), H6 GND (in), H7 GND (in), H8 GND (in), H9 GND (in), H10 GND (in), H11 GND (in), H12 BPLL_DVDD_V12D (in), J6 GND (in), J7 GND (in), J8 GND (in), J9 GND (in), J10 GND (in), J11 GND (in), J12 CPLL_DVDD_V12D (in), J13 SOC_CO_V12D (in), K5 SOC_CO_V12D (in), K6 GND (in), K7 GND (in), K8 GND (in), K9 GND (in), K10 GND (in), K11 GND (in), K12 GND (in), K13 SOC_IO_V33D (in), L6 GND (in), L7 GND (in), L8 GND (in), L9 GND (in), L10 GND (in), L11 GND (in), L12 GND (in), L13 BPLL_AVDD_V12A (in), M11 GND (in), M12 GND (in), M13 CPLL_AVDD_V12A (in), N10 SOC_CO_V12D (in), N11 GND (in), N12 GND (in)
part H pins: K16 DCDC_VSSA (in), K17 DCDC_VSSD (in), L16 FB (in), L17 LGATE (in), M16 VOUT_1P2 (in), M17 DCDC_V33D (in), N13 DCDC_VSSA (in), N14 DCDC_V33A (in), N15 COMP (in), N16 VOUT_1P2 (in), N17 UGATE (in), P14 OUT_FB_1P8 (in), P15 EXT_LDO_1P8 (in), P16 VFB_1P2 (in), P17 DIS_SW (in), R17 EXT_LDO_1P5 (in), T17 VIN_1P5 (in), U17 VIN_1P5 (in)

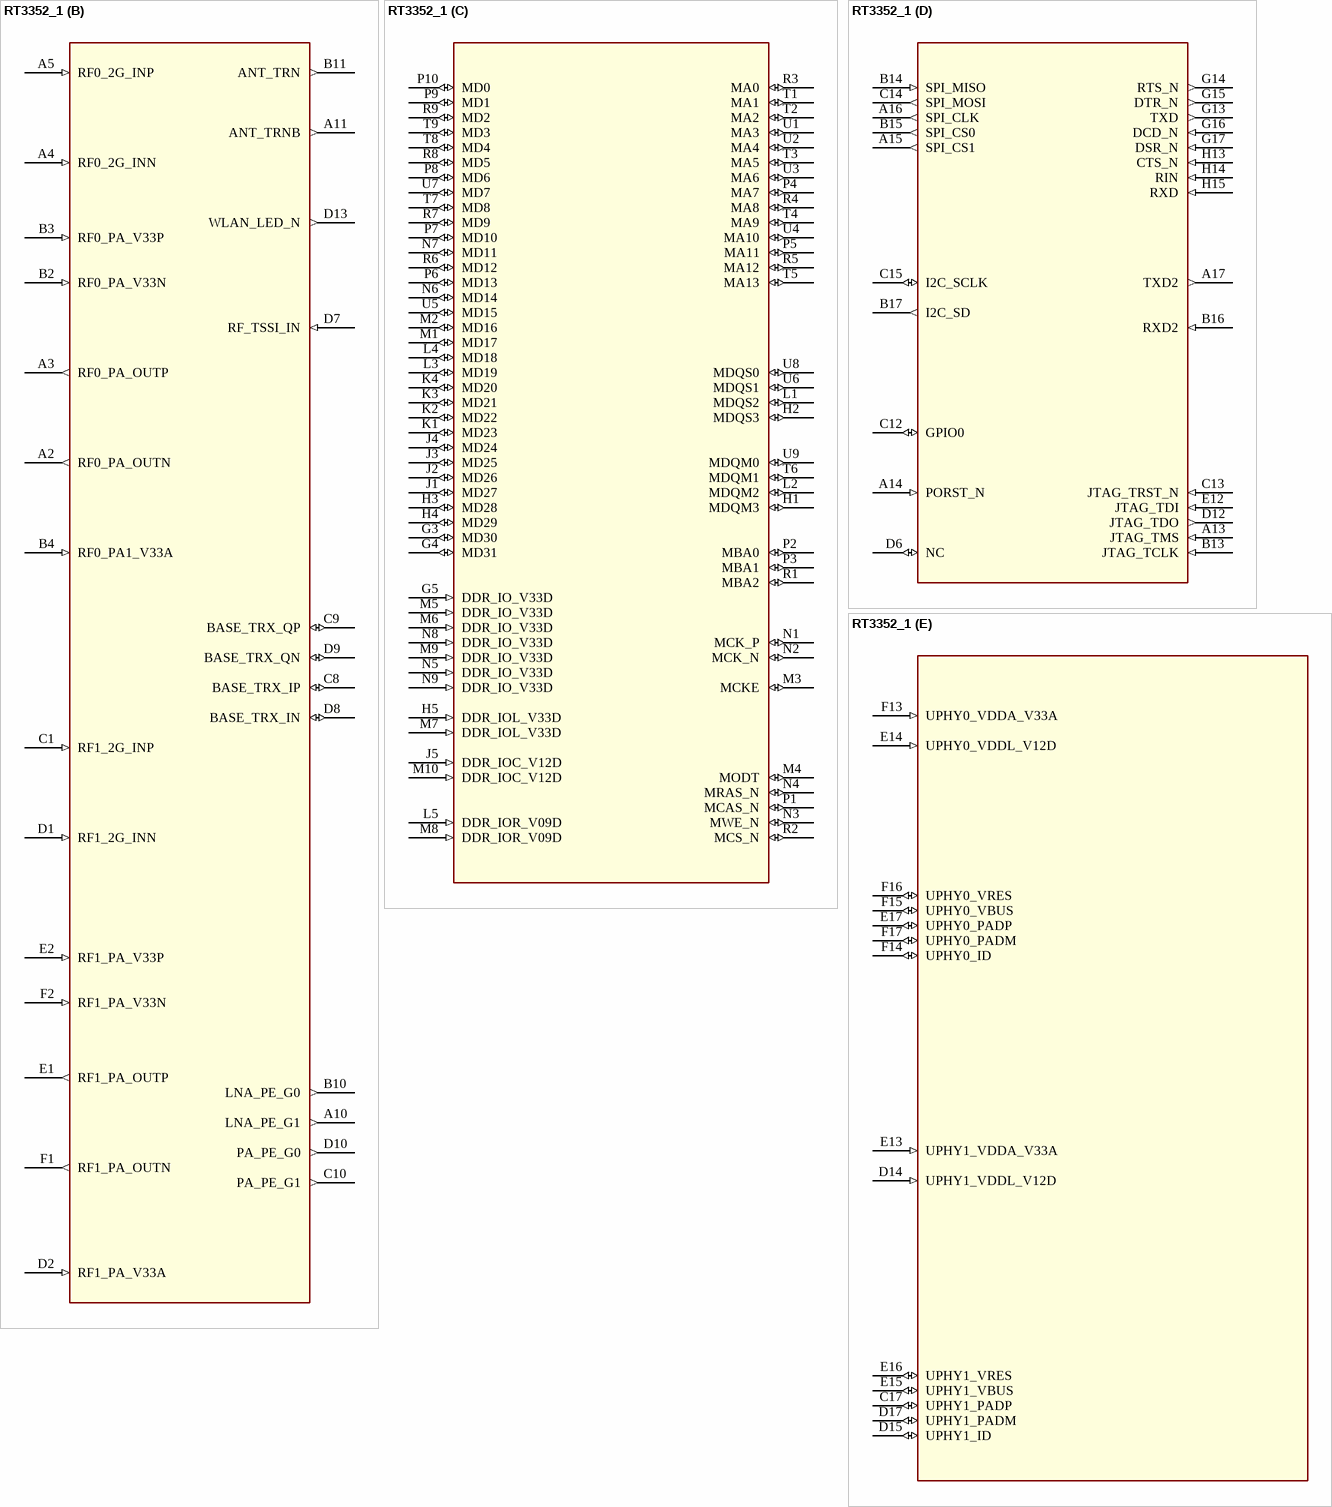
[diagram p84: symbol RT3352_1]

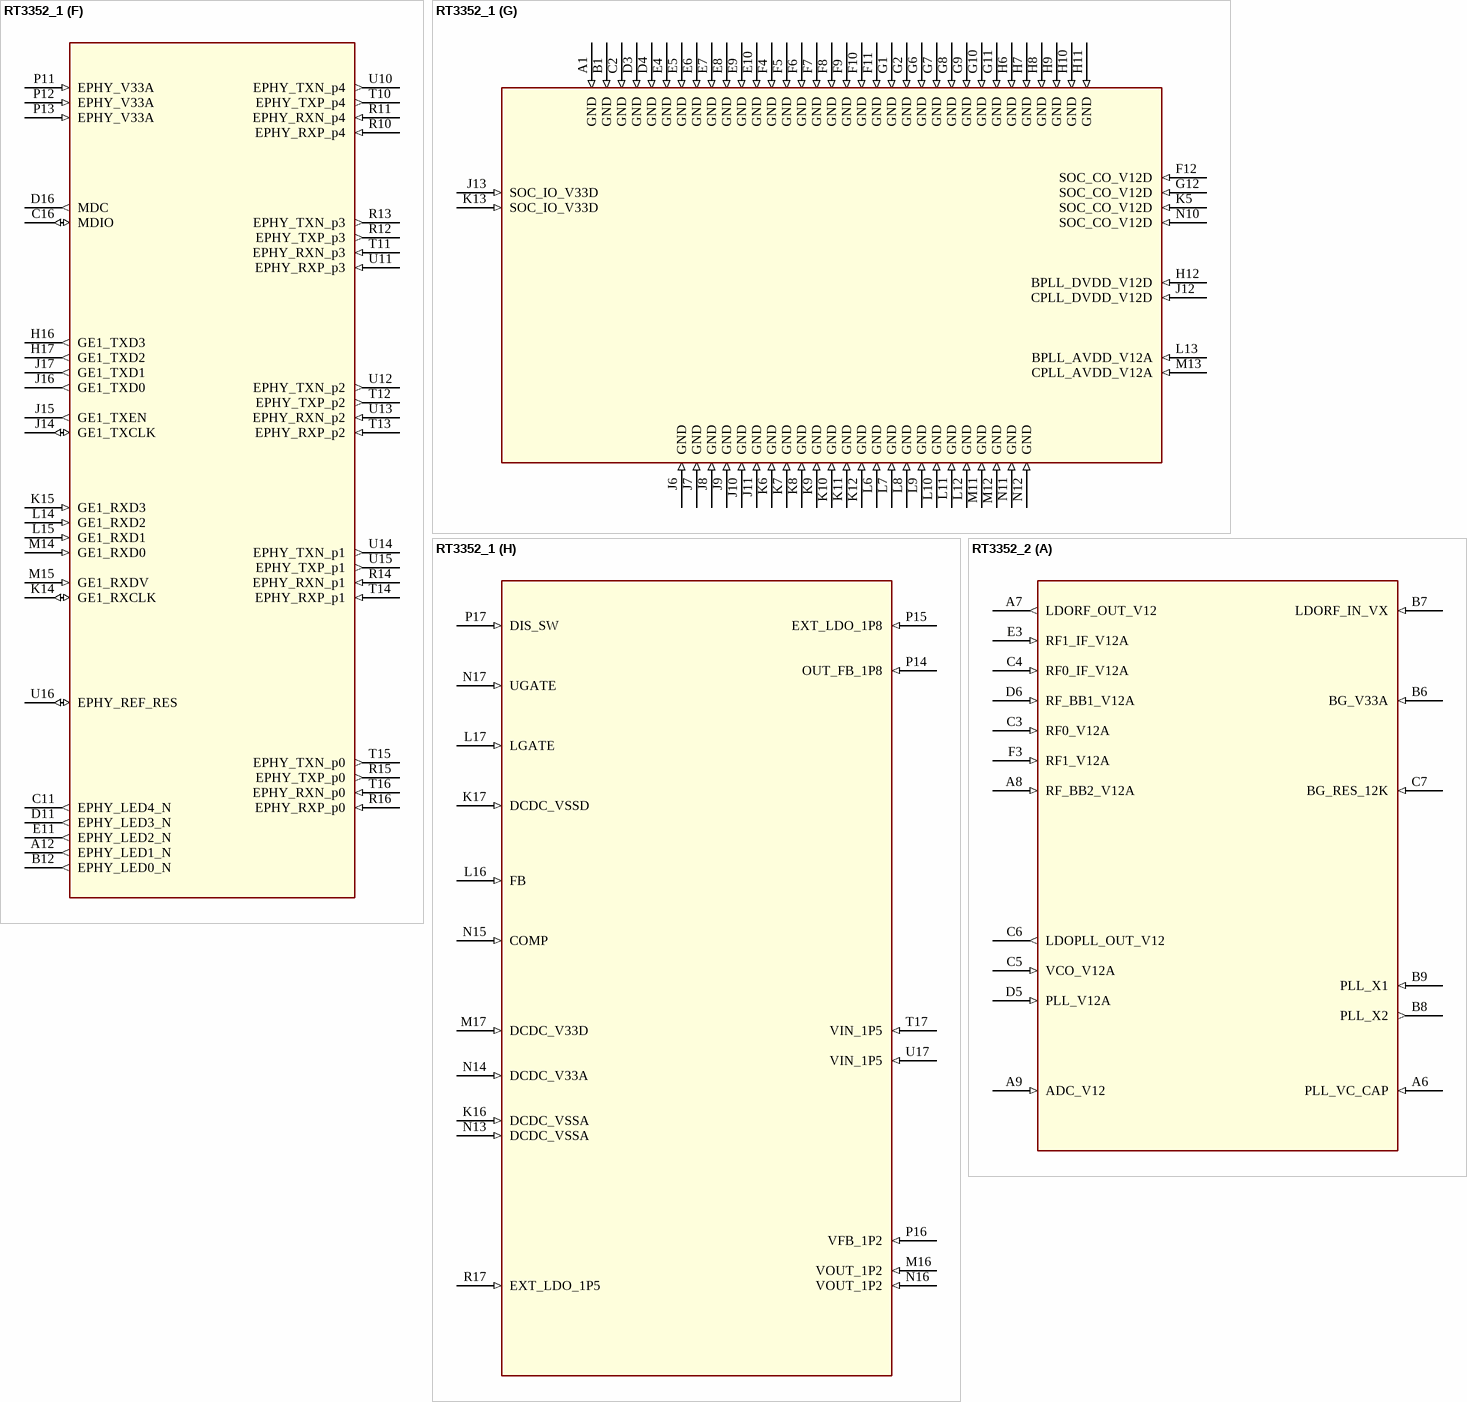
[diagram p85: symbols RT3352_1 to RT3352_2]

## RT3352_1
designator U?
part A pins: A6 PLL_VC_CAP (in), A7 LDORF_OUT_V12 (out), A8 RF_BB2_V12A (in), A9 ADC_V12 (in), B6 BG_V33A (in), B7 LDORF_IN_VX (in), B8 PLL_X2 (out), B9 PLL_X1 (in), C3 RF0_V12A (in), C4 RF0_IF_V12A (in), C5 VCO_V12A (in), C6 LDOPLL_OUT_V12 (out), C7 BG_RES_12K (in), D5 PLL_V12A (in), D6 RF_BB1_V12A (in), E3 RF1_IF_V12A (in), F3 RF1_V12A (in)
part B pins: A2 RF0_PA_OUTN (out), A3 RF0_PA_OUTP (out), A4 RF0_2G_INN (in), A5 RF0_2G_INP (in), A10 LNA_PE_G1 (out), A11 ANT_TRNB (out), B2 RF0_PA_V33N (in), B3 RF0_PA_V33P (in), B4 RF0_PA1_V33A (in), B10 LNA_PE_G0 (out), B11 ANT_TRN (out), C1 RF1_2G_INP (in), C8 BASE_TRX_IP (io), C9 BASE_TRX_QP (io), C10 PA_PE_G1 (out), D1 RF1_2G_INN (in), D2 RF1_PA_V33A (in), D7 RF_TSSI_IN (in), D8 BASE_TRX_IN (io), D9 BASE_TRX_QN (io), D10 PA_PE_G0 (out), D13 WLAN_LED_N (out), E1 RF1_PA_OUTP (out), E2 RF1_PA_V33P (in), F1 RF1_PA_OUTN (out), F2 RF1_PA_V33N (in)
part C pins: G3 MD30 (io), G4 MD31 (io), G5 DDR_IO_V33D (in), H1 MDQM3 (io), H2 MDQS3 (io), H3 MD28 (io), H4 MD29 (io), H5 DDR_IOL_V33D (in), J1 MD27 (io), J2 MD26 (io), J3 MD25 (io), J4 MD24 (io), J5 DDR_IOC_V12D (in), K1 MD23 (io), K2 MD22 (io), K3 MD21 (io), K4 MD20 (io), L1 MDQS2 (io), L2 MDQM2 (io), L3 MD19 (io), L4 MD18 (io), L5 DDR_IOR_V09D (in), M1 MD17 (io), M2 MD16 (io), M3 MCKE (io), M4 MODT (io), M5 DDR_IO_V33D (in), M6 DDR_IO_V33D (in), M7 DDR_IOL_V33D (in), M8 DDR_IOR_V09D (in), M9 DDR_IO_V33D (in), M10 DDR_IOC_V12D (in), N1 MCK_P (io), N2 MCK_N (io), N3 MWE_N (io), N4 MRAS_N (io), N5 DDR_IO_V33D (in), N6 MD14 (io), N7 MD11 (io), N8 DDR_IO_V33D (in), N9 DDR_IO_V33D (in), P1 MCAS_N (io), P2 MBA0 (io), P3 MBA1 (io), P4 MA7 (io), P5 MA11 (io), P6 MD13 (io), P7 MD10 (io), P8 MD6 (io), P9 MD1 (io), P10 MD0 (io), R1 MBA2 (io), R2 MCS_N (io), R3 MA0 (io), R4 MA8 (io), R5 MA12 (io), R6 MD12 (io), R7 MD9 (io), R8 MD5 (io), R9 MD2 (io), T1 MA1 (io), T2 MA2 (io), T3 MA5 (io), T4 MA9 (io), T5 MA13 (io), T6 MDQM1 (io), T7 MD8 (io), T8 MD4 (io), T9 MD3 (io), U1 MA3 (io), U2 MA4 (io), U3 MA6 (io), U4 MA10 (io), U5 MD15 (io), U6 MDQS1 (io), U7 MD7 (io), U8 MDQS0 (io), U9 MDQM0 (io)
part D pins: A13 JTAG_TMS (in), A14 PORST_N (in), A15 SPI_CS1 (out), A16 SPI_CLK (out), A17 TXD2 (out), B13 JTAG_TCLK (in), B14 SPI_MISO (in), B15 SPI_CS0 (out), B16 RXD2 (in), B17 I2C_SD (out), C12 GPIO0 (io), C13 JTAG_TRST_N (in), C14 SPI_MOSI (out), C15 I2C_SCLK (io), D6 NC (io), D12 JTAG_TDO (out), E12 JTAG_TDI (in), G13 TXD (out), G14 RTS_N (out), G15 DTR_N (out), G16 DCD_N (in), G17 DSR_N (in), H13 CTS_N (in), H14 RIN (in), H15 RXD (in)
part E pins: C17 UPHY1_PADP (io), D14 UPHY1_VDDL_V12D (in), D15 UPHY1_ID (io), D17 UPHY1_PADM (io), E13 UPHY1_VDDA_V33A (in), E14 UPHY0_VDDL_V12D (in), E15 UPHY1_VBUS (io), E16 UPHY1_VRES (io), E17 UPHY0_PADP (io), F13 UPHY0_VDDA_V33A (in), F14 UPHY0_ID (io), F15 UPHY0_VBUS (io), F16 UPHY0_VRES (io), F17 UPHY0_PADM (io)
part F pins: A12 EPHY_LED1_N (out), B12 EPHY_LED0_N (out), C11 EPHY_LED4_N (out), C16 MDIO (io), D11 EPHY_LED3_N (out), D16 MDC (out), E11 EPHY_LED2_N (out), H16 GE1_TXD3 (out), H17 GE1_TXD2 (out), J14 GE1_TXCLK (io), J15 GE1_TXEN (out), J16 GE1_TXD0 (out), J17 GE1_TXD1 (out), K14 GE1_RXCLK (io), K15 GE1_RXD3 (in), L14 GE1_RXD2 (in), L15 GE1_RXD1 (in), M14 GE1_RXD0 (in), M15 GE1_RXDV (in), P11 EPHY_V33A (in), P12 EPHY_V33A (in), P13 EPHY_V33A (in), R10 EPHY_RXP_p4 (in), R11 EPHY_RXN_p4 (in), R12 EPHY_TXP_p3 (out), R13 EPHY_TXN_p3 (out), R14 EPHY_RXN_p1 (in), R15 EPHY_TXP_p0 (out), R16 EPHY_RXP_p0 (in), T10 EPHY_TXP_p4 (out), T11 EPHY_RXN_p3 (in), T12 EPHY_TXP_p2 (out), T13 EPHY_RXP_p2 (in), T14 EPHY_RXP_p1 (in), T15 EPHY_TXN_p0 (out), T16 EPHY_RXN_p0 (in), U10 EPHY_TXN_p4 (out), U11 EPHY_RXP_p3 (in), U12 EPHY_TXN_p2 (out), U13 EPHY_RXN_p2 (in), U14 EPHY_TXN_p1 (out), U15 EPHY_TXP_p1 (out), U16 EPHY_REF_RES (io)
part G pins: A1 GND (in), B1 GND (in), C2 GND (in), D3 GND (in), D4 GND (in), E4 GND (in), E5 GND (in), E6 GND (in), E7 GND (in), E8 GND (in), E9 GND (in), E10 GND (in), F4 GND (in), F5 GND (in), F6 GND (in), F7 GND (in), F8 GND (in), F9 GND (in), F10 GND (in), F11 GND (in), F12 SOC_CO_V12D (in), G1 GND (in), G2 GND (in), G6 GND (in), G7 GND (in), G8 GND (in), G9 GND (in), G10 GND (in), G11 GND (in), G12 SOC_CO_V12D (in), H6 GND (in), H7 GND (in), H8 GND (in), H9 GND (in), H10 GND (in), H11 GND (in), H12 BPLL_DVDD_V12D (in), J6 GND (in), J7 GND (in), J8 GND (in), J9 GND (in), J10 GND (in), J11 GND (in), J12 CPLL_DVDD_V12D (in), J13 SOC_IO_V33D (in), K5 SOC_CO_V12D (in), K6 GND (in), K7 GND (in), K8 GND (in), K9 GND (in), K10 GND (in), K11 GND (in), K12 GND (in), K13 SOC_IO_V33D (in), L6 GND (in), L7 GND (in), L8 GND (in), L9 GND (in), L10 GND (in), L11 GND (in), L12 GND (in), L13 BPLL_AVDD_V12A (in), M11 GND (in), M12 GND (in), M13 CPLL_AVDD_V12A (in), N10 SOC_CO_V12D (in), N11 GND (in), N12 GND (in)
part H pins: K16 DCDC_VSSA (in), K17 DCDC_VSSD (in), L16 FB (in), L17 LGATE (in), M16 VOUT_1P2 (in), M17 DCDC_V33D (in), N13 DCDC_VSSA (in), N14 DCDC_V33A (in), N15 COMP (in), N16 VOUT_1P2 (in), N17 UGATE (in), P14 OUT_FB_1P8 (in), P15 EXT_LDO_1P8 (in), P16 VFB_1P2 (in), P17 DIS_SW (in), R17 EXT_LDO_1P5 (in), T17 VIN_1P5 (in), U17 VIN_1P5 (in)

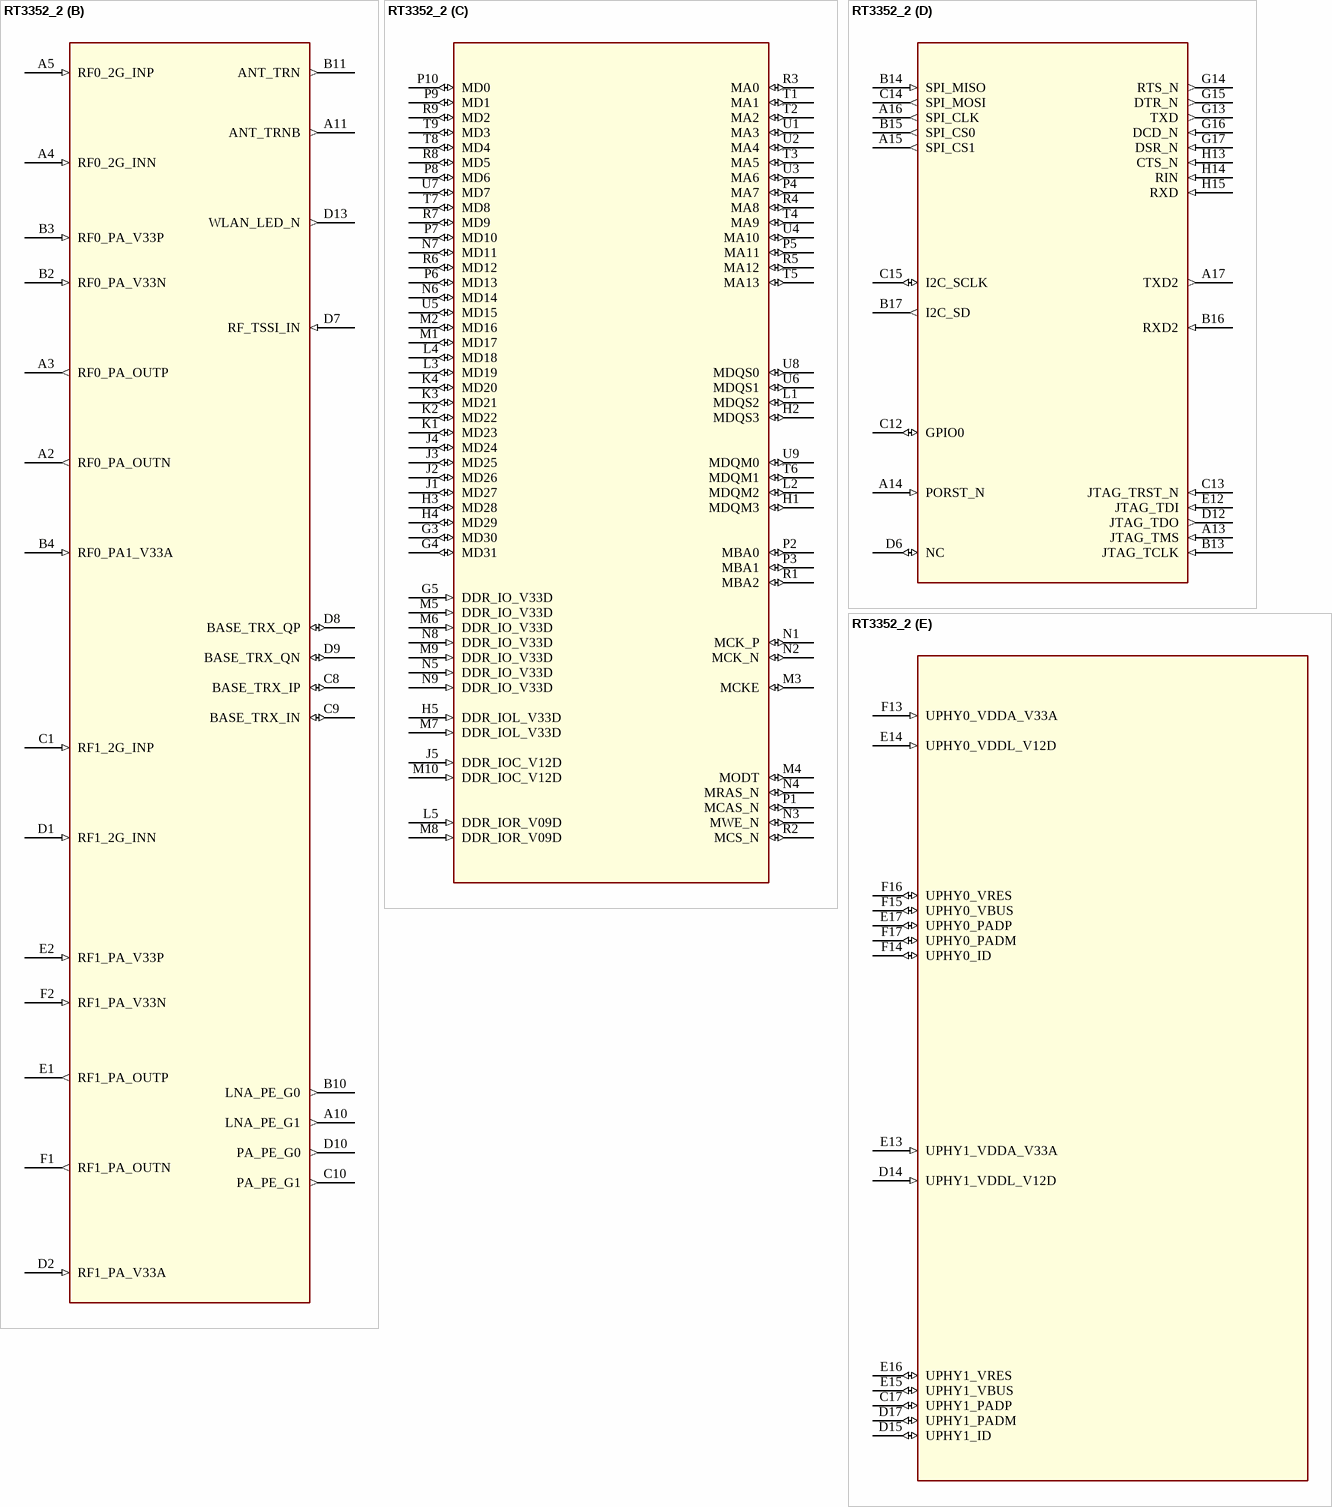
[diagram p86: symbol RT3352_2]

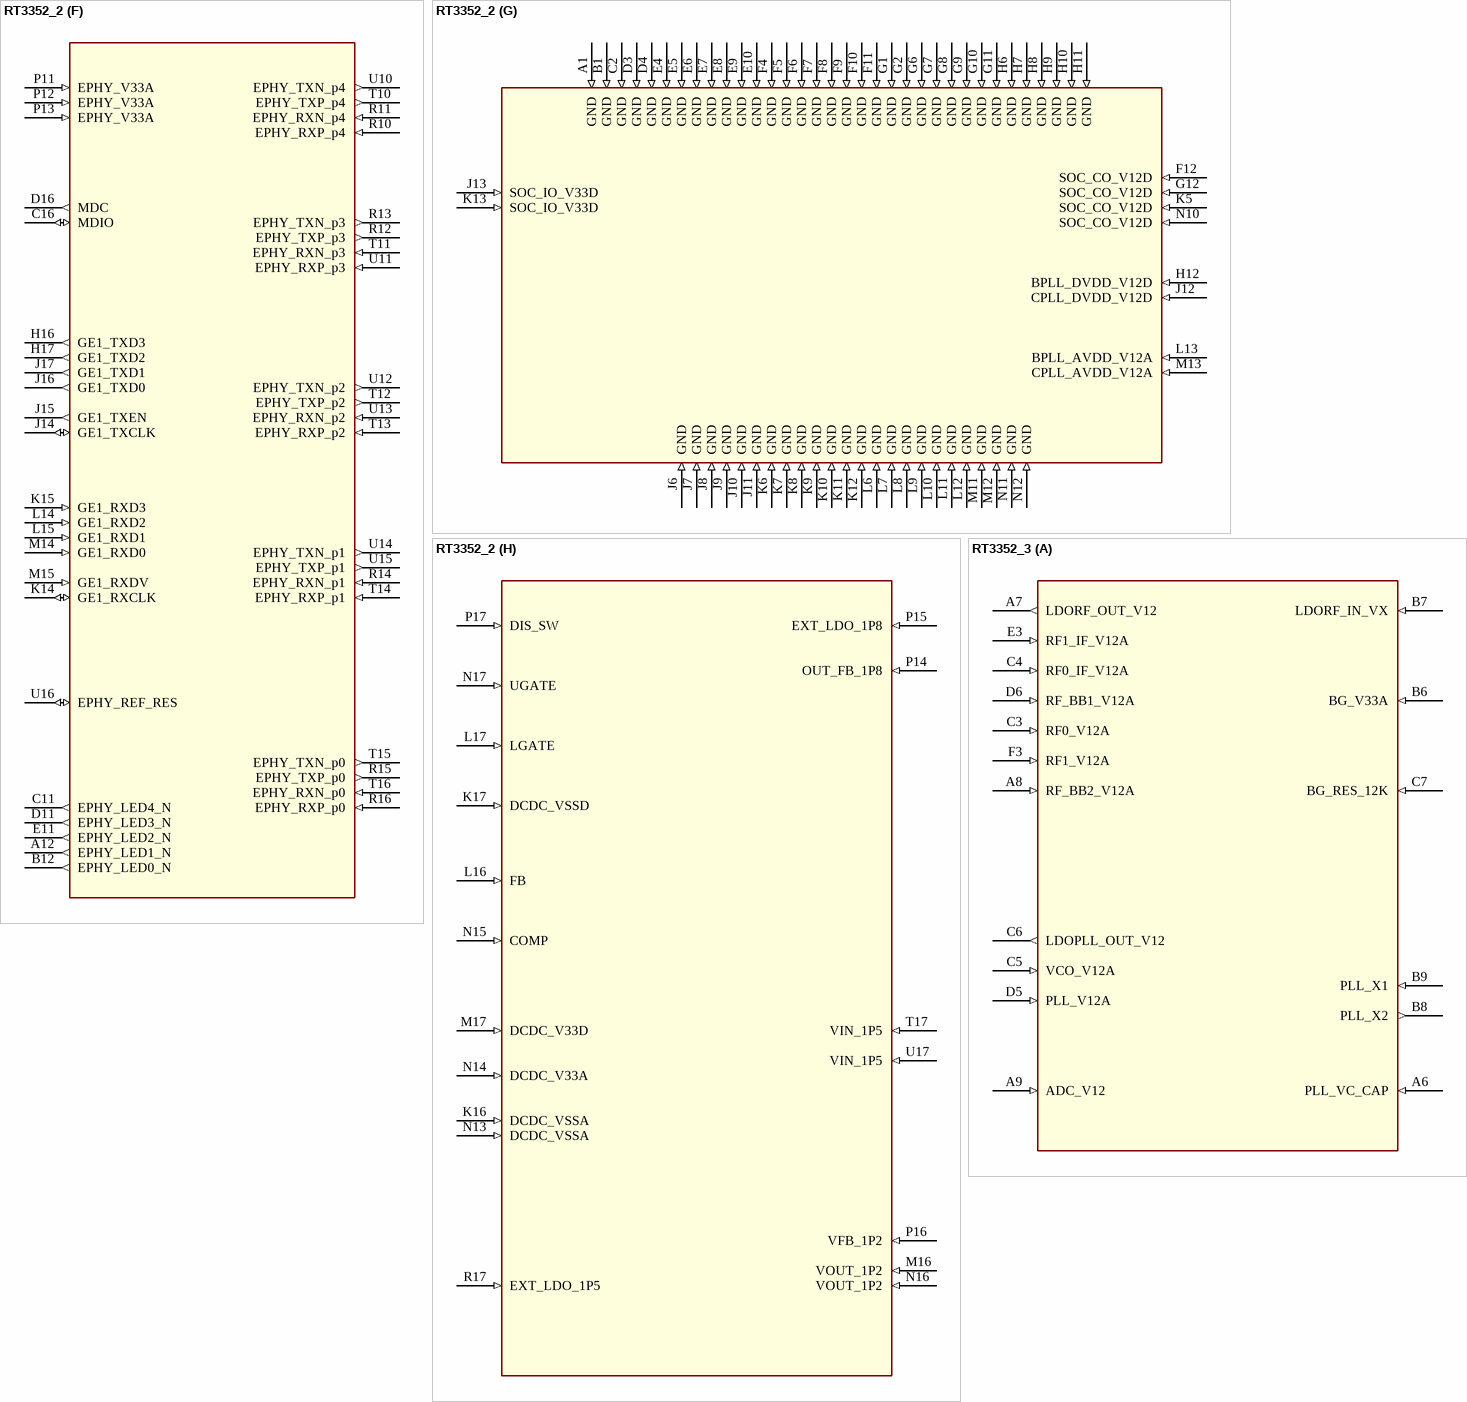
[diagram p87: symbols RT3352_2 to RT3352_3]

## RT3352_2
designator U?
part A pins: A6 PLL_VC_CAP (in), A7 LDORF_OUT_V12 (out), A8 RF_BB2_V12A (in), A9 ADC_V12 (in), B6 BG_V33A (in), B7 LDORF_IN_VX (in), B8 PLL_X2 (out), B9 PLL_X1 (in), C3 RF0_V12A (in), C4 RF0_IF_V12A (in), C5 VCO_V12A (in), C6 LDOPLL_OUT_V12 (out), C7 BG_RES_12K (in), D5 PLL_V12A (in), D6 RF_BB1_V12A (in), E3 RF1_IF_V12A (in), F3 RF1_V12A (in)
part B pins: A2 RF0_PA_OUTN (out), A3 RF0_PA_OUTP (out), A4 RF0_2G_INN (in), A5 RF0_2G_INP (in), A10 LNA_PE_G1 (out), A11 ANT_TRNB (out), B2 RF0_PA_V33N (in), B3 RF0_PA_V33P (in), B4 RF0_PA1_V33A (in), B10 LNA_PE_G0 (out), B11 ANT_TRN (out), C1 RF1_2G_INP (in), C8 BASE_TRX_IP (io), C9 BASE_TRX_IN (io), C10 PA_PE_G1 (out), D1 RF1_2G_INN (in), D2 RF1_PA_V33A (in), D7 RF_TSSI_IN (in), D8 BASE_TRX_QP (io), D9 BASE_TRX_QN (io), D10 PA_PE_G0 (out), D13 WLAN_LED_N (out), E1 RF1_PA_OUTP (out), E2 RF1_PA_V33P (in), F1 RF1_PA_OUTN (out), F2 RF1_PA_V33N (in)
part C pins: G3 MD30 (io), G4 MD31 (io), G5 DDR_IO_V33D (in), H1 MDQM3 (io), H2 MDQS3 (io), H3 MD28 (io), H4 MD29 (io), H5 DDR_IOL_V33D (in), J1 MD27 (io), J2 MD26 (io), J3 MD25 (io), J4 MD24 (io), J5 DDR_IOC_V12D (in), K1 MD23 (io), K2 MD22 (io), K3 MD21 (io), K4 MD20 (io), L1 MDQS2 (io), L2 MDQM2 (io), L3 MD19 (io), L4 MD18 (io), L5 DDR_IOR_V09D (in), M1 MD17 (io), M2 MD16 (io), M3 MCKE (io), M4 MODT (io), M5 DDR_IO_V33D (in), M6 DDR_IO_V33D (in), M7 DDR_IOL_V33D (in), M8 DDR_IOR_V09D (in), M9 DDR_IO_V33D (in), M10 DDR_IOC_V12D (in), N1 MCK_P (io), N2 MCK_N (io), N3 MWE_N (io), N4 MRAS_N (io), N5 DDR_IO_V33D (in), N6 MD14 (io), N7 MD11 (io), N8 DDR_IO_V33D (in), N9 DDR_IO_V33D (in), P1 MCAS_N (io), P2 MBA0 (io), P3 MBA1 (io), P4 MA7 (io), P5 MA11 (io), P6 MD13 (io), P7 MD10 (io), P8 MD6 (io), P9 MD1 (io), P10 MD0 (io), R1 MBA2 (io), R2 MCS_N (io), R3 MA0 (io), R4 MA8 (io), R5 MA12 (io), R6 MD12 (io), R7 MD9 (io), R8 MD5 (io), R9 MD2 (io), T1 MA1 (io), T2 MA2 (io), T3 MA5 (io), T4 MA9 (io), T5 MA13 (io), T6 MDQM1 (io), T7 MD8 (io), T8 MD4 (io), T9 MD3 (io), U1 MA3 (io), U2 MA4 (io), U3 MA6 (io), U4 MA10 (io), U5 MD15 (io), U6 MDQS1 (io), U7 MD7 (io), U8 MDQS0 (io), U9 MDQM0 (io)
part D pins: A13 JTAG_TMS (in), A14 PORST_N (in), A15 SPI_CS1 (out), A16 SPI_CLK (out), A17 TXD2 (out), B13 JTAG_TCLK (in), B14 SPI_MISO (in), B15 SPI_CS0 (out), B16 RXD2 (in), B17 I2C_SD (out), C12 GPIO0 (io), C13 JTAG_TRST_N (in), C14 SPI_MOSI (out), C15 I2C_SCLK (io), D6 NC (io), D12 JTAG_TDO (out), E12 JTAG_TDI (in), G13 TXD (out), G14 RTS_N (out), G15 DTR_N (out), G16 DCD_N (in), G17 DSR_N (in), H13 CTS_N (in), H14 RIN (in), H15 RXD (in)
part E pins: C17 UPHY1_PADP (io), D14 UPHY1_VDDL_V12D (in), D15 UPHY1_ID (io), D17 UPHY1_PADM (io), E13 UPHY1_VDDA_V33A (in), E14 UPHY0_VDDL_V12D (in), E15 UPHY1_VBUS (io), E16 UPHY1_VRES (io), E17 UPHY0_PADP (io), F13 UPHY0_VDDA_V33A (in), F14 UPHY0_ID (io), F15 UPHY0_VBUS (io), F16 UPHY0_VRES (io), F17 UPHY0_PADM (io)
part F pins: A12 EPHY_LED1_N (out), B12 EPHY_LED0_N (out), C11 EPHY_LED4_N (out), C16 MDIO (io), D11 EPHY_LED3_N (out), D16 MDC (out), E11 EPHY_LED2_N (out), H16 GE1_TXD3 (out), H17 GE1_TXD2 (out), J14 GE1_TXCLK (io), J15 GE1_TXEN (out), J16 GE1_TXD0 (out), J17 GE1_TXD1 (out), K14 GE1_RXCLK (io), K15 GE1_RXD3 (in), L14 GE1_RXD2 (in), L15 GE1_RXD1 (in), M14 GE1_RXD0 (in), M15 GE1_RXDV (in), P11 EPHY_V33A (in), P12 EPHY_V33A (in), P13 EPHY_V33A (in), R10 EPHY_RXP_p4 (in), R11 EPHY_RXN_p4 (in), R12 EPHY_TXP_p3 (out), R13 EPHY_TXN_p3 (out), R14 EPHY_RXN_p1 (in), R15 EPHY_TXP_p0 (out), R16 EPHY_RXP_p0 (in), T10 EPHY_TXP_p4 (out), T11 EPHY_RXN_p3 (in), T12 EPHY_TXP_p2 (out), T13 EPHY_RXP_p2 (in), T14 EPHY_RXP_p1 (in), T15 EPHY_TXN_p0 (out), T16 EPHY_RXN_p0 (in), U10 EPHY_TXN_p4 (out), U11 EPHY_RXP_p3 (in), U12 EPHY_TXN_p2 (out), U13 EPHY_RXN_p2 (in), U14 EPHY_TXN_p1 (out), U15 EPHY_TXP_p1 (out), U16 EPHY_REF_RES (io)
part G pins: A1 GND (in), B1 GND (in), C2 GND (in), D3 GND (in), D4 GND (in), E4 GND (in), E5 GND (in), E6 GND (in), E7 GND (in), E8 GND (in), E9 GND (in), E10 GND (in), F4 GND (in), F5 GND (in), F6 GND (in), F7 GND (in), F8 GND (in), F9 GND (in), F10 GND (in), F11 GND (in), F12 SOC_CO_V12D (in), G1 GND (in), G2 GND (in), G6 GND (in), G7 GND (in), G8 GND (in), G9 GND (in), G10 GND (in), G11 GND (in), G12 SOC_CO_V12D (in), H6 GND (in), H7 GND (in), H8 GND (in), H9 GND (in), H10 GND (in), H11 GND (in), H12 BPLL_DVDD_V12D (in), J6 GND (in), J7 GND (in), J8 GND (in), J9 GND (in), J10 GND (in), J11 GND (in), J12 CPLL_DVDD_V12D (in), J13 SOC_IO_V33D (in), K5 SOC_CO_V12D (in), K6 GND (in), K7 GND (in), K8 GND (in), K9 GND (in), K10 GND (in), K11 GND (in), K12 GND (in), K13 SOC_IO_V33D (in), L6 GND (in), L7 GND (in), L8 GND (in), L9 GND (in), L10 GND (in), L11 GND (in), L12 GND (in), L13 BPLL_AVDD_V12A (in), M11 GND (in), M12 GND (in), M13 CPLL_AVDD_V12A (in), N10 SOC_CO_V12D (in), N11 GND (in), N12 GND (in)
part H pins: K16 DCDC_VSSA (in), K17 DCDC_VSSD (in), L16 FB (in), L17 LGATE (in), M16 VOUT_1P2 (in), M17 DCDC_V33D (in), N13 DCDC_VSSA (in), N14 DCDC_V33A (in), N15 COMP (in), N16 VOUT_1P2 (in), N17 UGATE (in), P14 OUT_FB_1P8 (in), P15 EXT_LDO_1P8 (in), P16 VFB_1P2 (in), P17 DIS_SW (in), R17 EXT_LDO_1P5 (in), T17 VIN_1P5 (in), U17 VIN_1P5 (in)

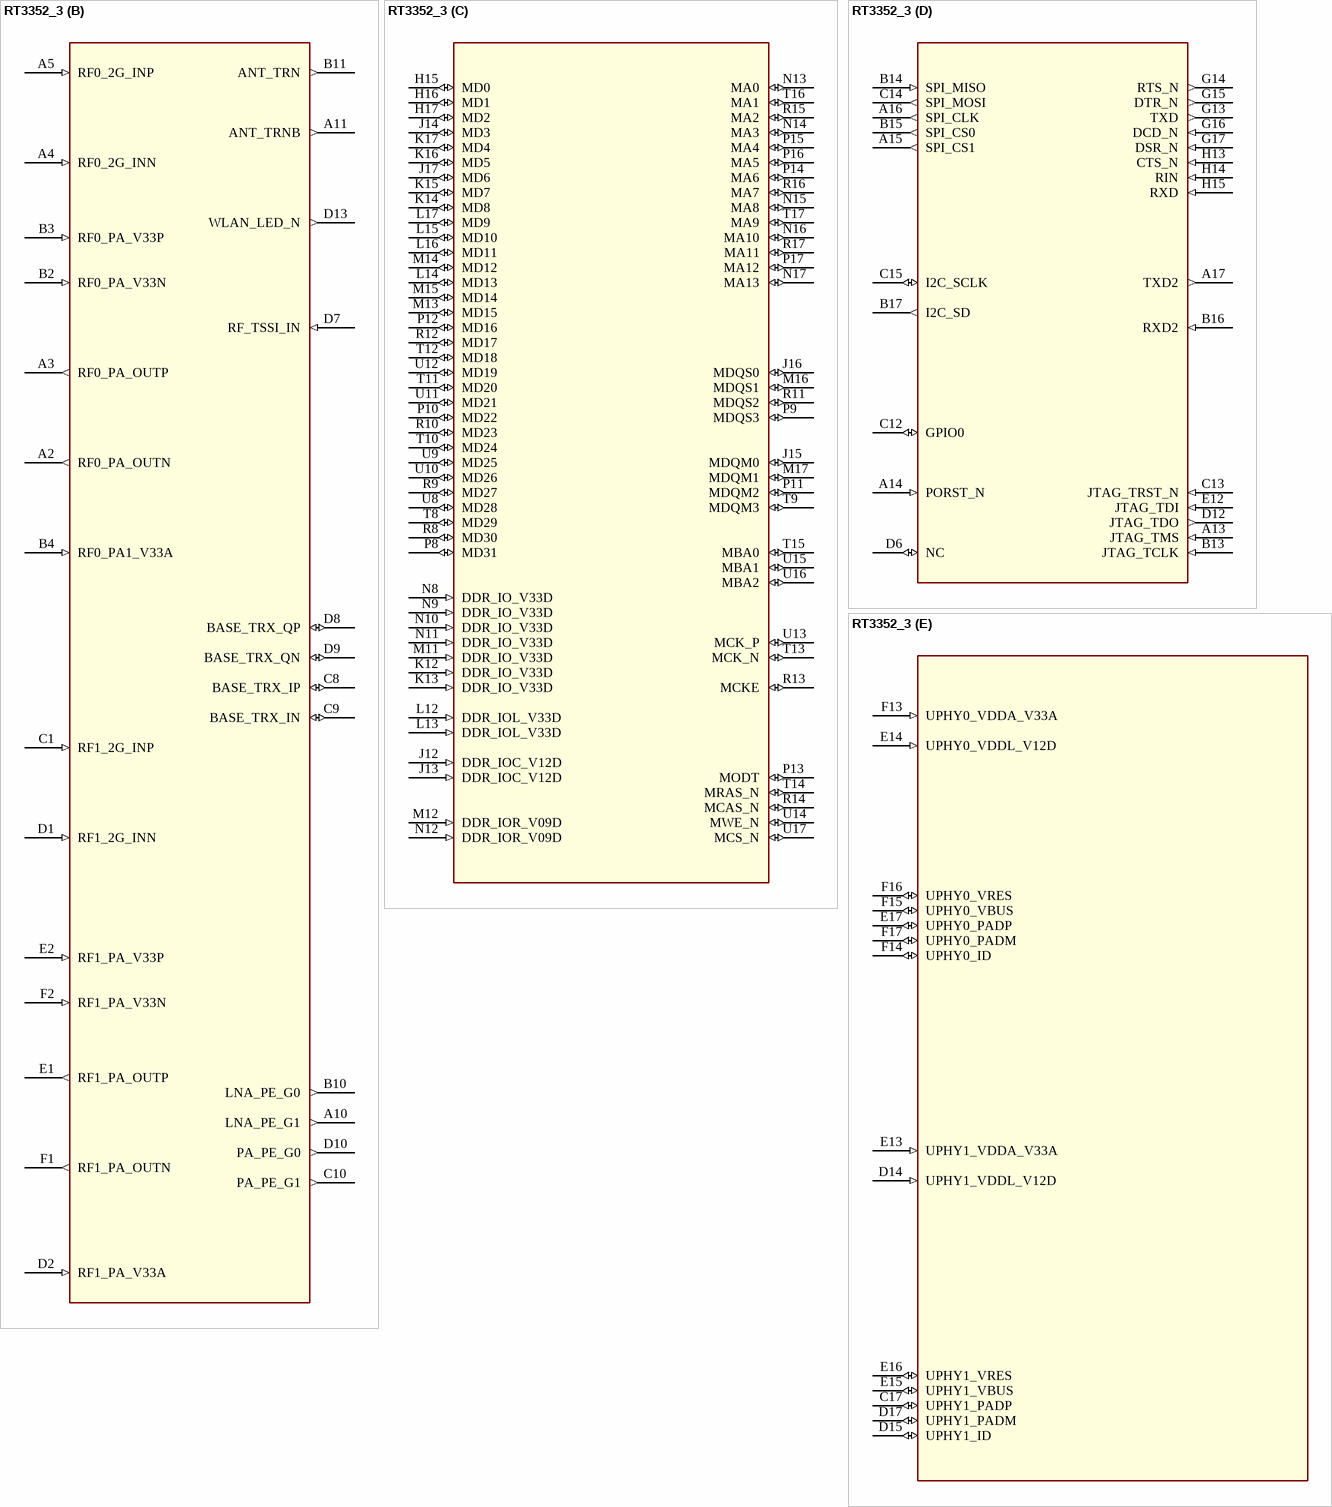
[diagram p88: symbol RT3352_3]

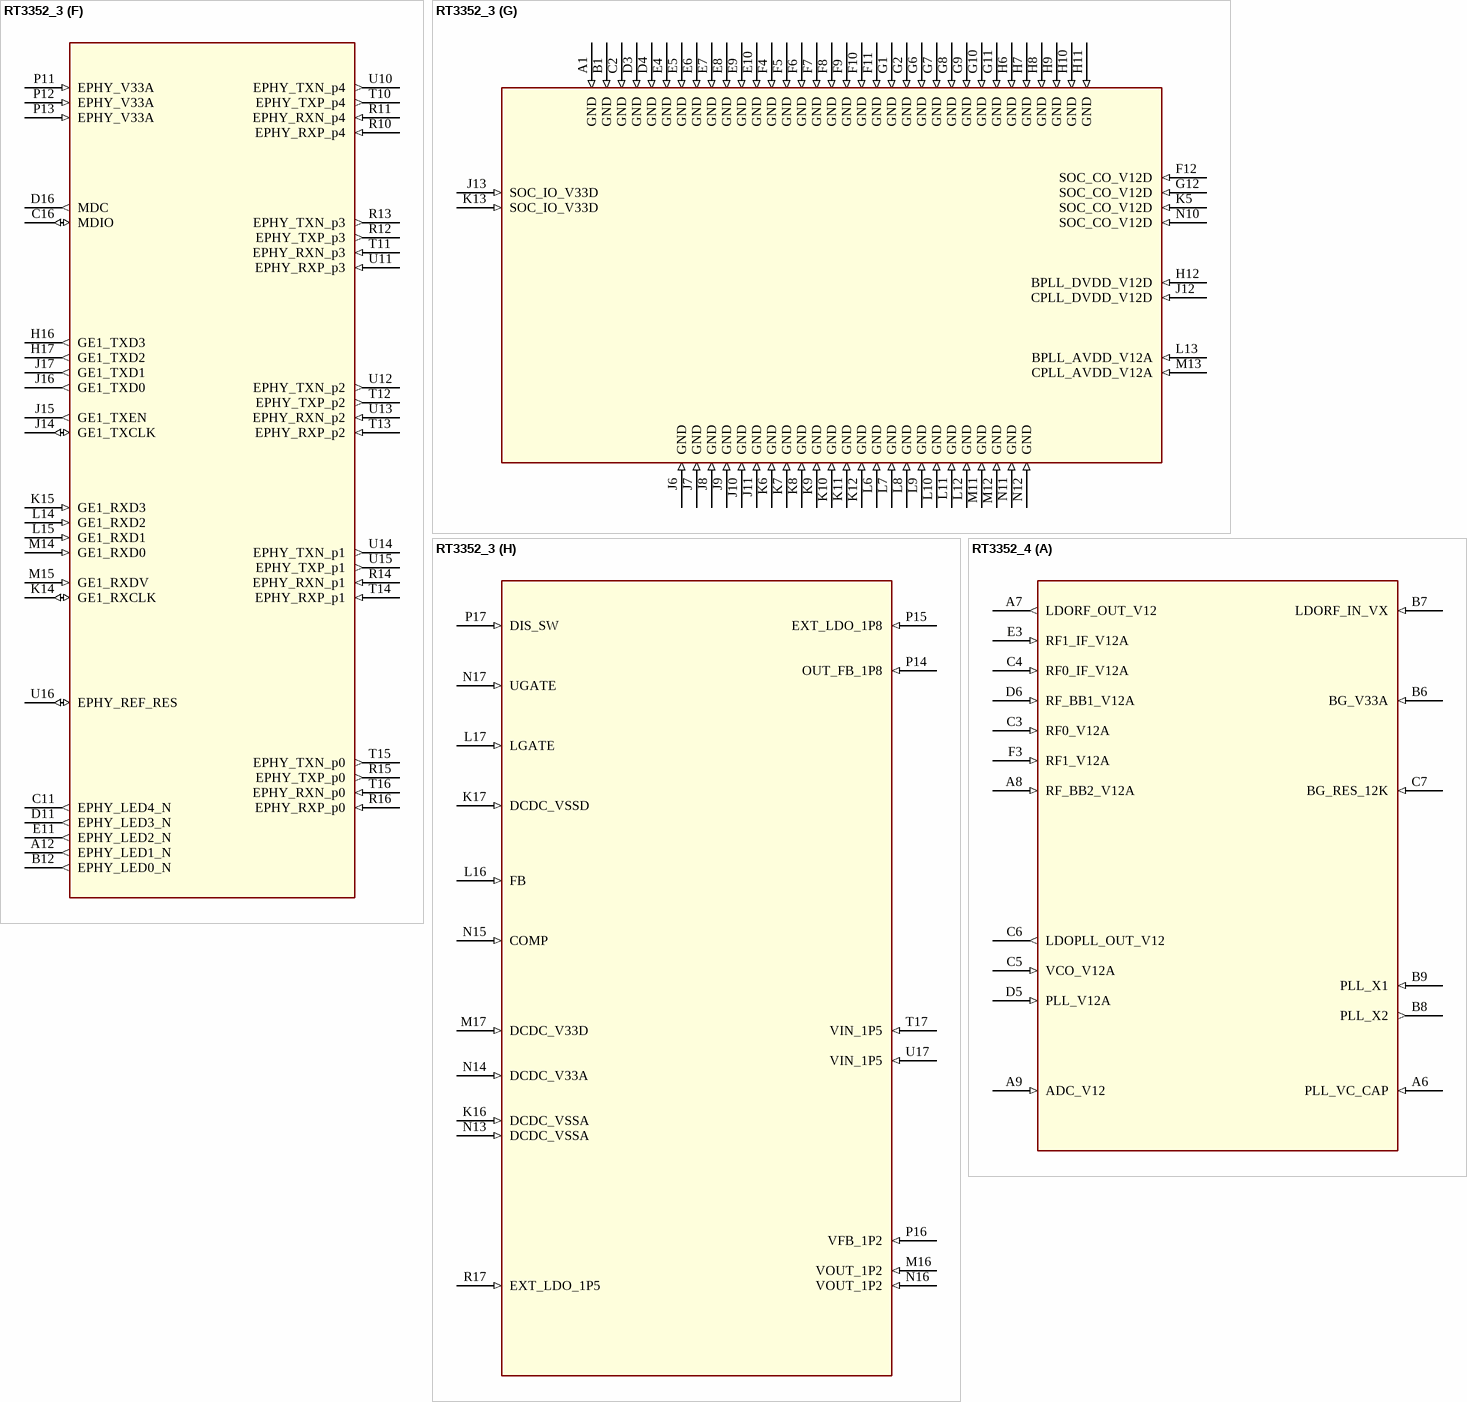
[diagram p89: symbols RT3352_3 to RT3352_4]

## RT3352_3
designator U?
part A pins: A6 PLL_VC_CAP (in), A7 LDORF_OUT_V12 (out), A8 RF_BB2_V12A (in), A9 ADC_V12 (in), B6 BG_V33A (in), B7 LDORF_IN_VX (in), B8 PLL_X2 (out), B9 PLL_X1 (in), C3 RF0_V12A (in), C4 RF0_IF_V12A (in), C5 VCO_V12A (in), C6 LDOPLL_OUT_V12 (out), C7 BG_RES_12K (in), D5 PLL_V12A (in), D6 RF_BB1_V12A (in), E3 RF1_IF_V12A (in), F3 RF1_V12A (in)
part B pins: A2 RF0_PA_OUTN (out), A3 RF0_PA_OUTP (out), A4 RF0_2G_INN (in), A5 RF0_2G_INP (in), A10 LNA_PE_G1 (out), A11 ANT_TRNB (out), B2 RF0_PA_V33N (in), B3 RF0_PA_V33P (in), B4 RF0_PA1_V33A (in), B10 LNA_PE_G0 (out), B11 ANT_TRN (out), C1 RF1_2G_INP (in), C8 BASE_TRX_IP (io), C9 BASE_TRX_IN (io), C10 PA_PE_G1 (out), D1 RF1_2G_INN (in), D2 RF1_PA_V33A (in), D7 RF_TSSI_IN (in), D8 BASE_TRX_QP (io), D9 BASE_TRX_QN (io), D10 PA_PE_G0 (out), D13 WLAN_LED_N (out), E1 RF1_PA_OUTP (out), E2 RF1_PA_V33P (in), F1 RF1_PA_OUTN (out), F2 RF1_PA_V33N (in)
part C pins: H15 MD0 (io), H16 MD1 (io), H17 MD2 (io), J12 DDR_IOC_V12D (in), J13 DDR_IOC_V12D (in), J14 MD3 (io), J15 MDQM0 (io), J16 MDQS0 (io), J17 MD6 (io), K12 DDR_IO_V33D (in), K13 DDR_IO_V33D (in), K14 MD8 (io), K15 MD7 (io), K16 MD5 (io), K17 MD4 (io), L12 DDR_IOL_V33D (in), L13 DDR_IOL_V33D (in), L14 MD13 (io), L15 MD10 (io), L16 MD11 (io), L17 MD9 (io), M11 DDR_IO_V33D (in), M12 DDR_IOR_V09D (in), M13 MD15 (io), M14 MD12 (io), M15 MD14 (io), M16 MDQS1 (io), M17 MDQM1 (io), N8 DDR_IO_V33D (in), N9 DDR_IO_V33D (in), N10 DDR_IO_V33D (in), N11 DDR_IO_V33D (in), N12 DDR_IOR_V09D (in), N13 MA0 (io), N14 MA3 (io), N15 MA8 (io), N16 MA10 (io), N17 MA13 (io), P8 MD31 (io), P9 MDQS3 (io), P10 MD22 (io), P11 MDQM2 (io), P12 MD16 (io), P13 MODT (io), P14 MA6 (io), P15 MA4 (io), P16 MA5 (io), P17 MA12 (io), R8 MD30 (io), R9 MD27 (io), R10 MD23 (io), R11 MDQS2 (io), R12 MD17 (io), R13 MCKE (io), R14 MCAS_N (io), R15 MA2 (io), R16 MA7 (io), R17 MA11 (io), T8 MD29 (io), T9 MDQM3 (io), T10 MD24 (io), T11 MD20 (io), T12 MD18 (io), T13 MCK_N (io), T14 MRAS_N (io), T15 MBA0 (io), T16 MA1 (io), T17 MA9 (io), U8 MD28 (io), U9 MD25 (io), U10 MD26 (io), U11 MD21 (io), U12 MD19 (io), U13 MCK_P (io), U14 MWE_N (io), U15 MBA1 (io), U16 MBA2 (io), U17 MCS_N (io)
part D pins: A13 JTAG_TMS (in), A14 PORST_N (in), A15 SPI_CS1 (out), A16 SPI_CLK (out), A17 TXD2 (out), B13 JTAG_TCLK (in), B14 SPI_MISO (in), B15 SPI_CS0 (out), B16 RXD2 (in), B17 I2C_SD (out), C12 GPIO0 (io), C13 JTAG_TRST_N (in), C14 SPI_MOSI (out), C15 I2C_SCLK (io), D6 NC (io), D12 JTAG_TDO (out), E12 JTAG_TDI (in), G13 TXD (out), G14 RTS_N (out), G15 DTR_N (out), G16 DCD_N (in), G17 DSR_N (in), H13 CTS_N (in), H14 RIN (in), H15 RXD (in)
part E pins: C17 UPHY1_PADP (io), D14 UPHY1_VDDL_V12D (in), D15 UPHY1_ID (io), D17 UPHY1_PADM (io), E13 UPHY1_VDDA_V33A (in), E14 UPHY0_VDDL_V12D (in), E15 UPHY1_VBUS (io), E16 UPHY1_VRES (io), E17 UPHY0_PADP (io), F13 UPHY0_VDDA_V33A (in), F14 UPHY0_ID (io), F15 UPHY0_VBUS (io), F16 UPHY0_VRES (io), F17 UPHY0_PADM (io)
part F pins: A12 EPHY_LED1_N (out), B12 EPHY_LED0_N (out), C11 EPHY_LED4_N (out), C16 MDIO (io), D11 EPHY_LED3_N (out), D16 MDC (out), E11 EPHY_LED2_N (out), H16 GE1_TXD3 (out), H17 GE1_TXD2 (out), J14 GE1_TXCLK (io), J15 GE1_TXEN (out), J16 GE1_TXD0 (out), J17 GE1_TXD1 (out), K14 GE1_RXCLK (io), K15 GE1_RXD3 (in), L14 GE1_RXD2 (in), L15 GE1_RXD1 (in), M14 GE1_RXD0 (in), M15 GE1_RXDV (in), P11 EPHY_V33A (in), P12 EPHY_V33A (in), P13 EPHY_V33A (in), R10 EPHY_RXP_p4 (in), R11 EPHY_RXN_p4 (in), R12 EPHY_TXP_p3 (out), R13 EPHY_TXN_p3 (out), R14 EPHY_RXN_p1 (in), R15 EPHY_TXP_p0 (out), R16 EPHY_RXP_p0 (in), T10 EPHY_TXP_p4 (out), T11 EPHY_RXN_p3 (in), T12 EPHY_TXP_p2 (out), T13 EPHY_RXP_p2 (in), T14 EPHY_RXP_p1 (in), T15 EPHY_TXN_p0 (out), T16 EPHY_RXN_p0 (in), U10 EPHY_TXN_p4 (out), U11 EPHY_RXP_p3 (in), U12 EPHY_TXN_p2 (out), U13 EPHY_RXN_p2 (in), U14 EPHY_TXN_p1 (out), U15 EPHY_TXP_p1 (out), U16 EPHY_REF_RES (io)
part G pins: A1 GND (in), B1 GND (in), C2 GND (in), D3 GND (in), D4 GND (in), E4 GND (in), E5 GND (in), E6 GND (in), E7 GND (in), E8 GND (in), E9 GND (in), E10 GND (in), F4 GND (in), F5 GND (in), F6 GND (in), F7 GND (in), F8 GND (in), F9 GND (in), F10 GND (in), F11 GND (in), F12 SOC_CO_V12D (in), G1 GND (in), G2 GND (in), G6 GND (in), G7 GND (in), G8 GND (in), G9 GND (in), G10 GND (in), G11 GND (in), G12 SOC_CO_V12D (in), H6 GND (in), H7 GND (in), H8 GND (in), H9 GND (in), H10 GND (in), H11 GND (in), H12 BPLL_DVDD_V12D (in), J6 GND (in), J7 GND (in), J8 GND (in), J9 GND (in), J10 GND (in), J11 GND (in), J12 CPLL_DVDD_V12D (in), J13 SOC_IO_V33D (in), K5 SOC_CO_V12D (in), K6 GND (in), K7 GND (in), K8 GND (in), K9 GND (in), K10 GND (in), K11 GND (in), K12 GND (in), K13 SOC_IO_V33D (in), L6 GND (in), L7 GND (in), L8 GND (in), L9 GND (in), L10 GND (in), L11 GND (in), L12 GND (in), L13 BPLL_AVDD_V12A (in), M11 GND (in), M12 GND (in), M13 CPLL_AVDD_V12A (in), N10 SOC_CO_V12D (in), N11 GND (in), N12 GND (in)
part H pins: K16 DCDC_VSSA (in), K17 DCDC_VSSD (in), L16 FB (in), L17 LGATE (in), M16 VOUT_1P2 (in), M17 DCDC_V33D (in), N13 DCDC_VSSA (in), N14 DCDC_V33A (in), N15 COMP (in), N16 VOUT_1P2 (in), N17 UGATE (in), P14 OUT_FB_1P8 (in), P15 EXT_LDO_1P8 (in), P16 VFB_1P2 (in), P17 DIS_SW (in), R17 EXT_LDO_1P5 (in), T17 VIN_1P5 (in), U17 VIN_1P5 (in)

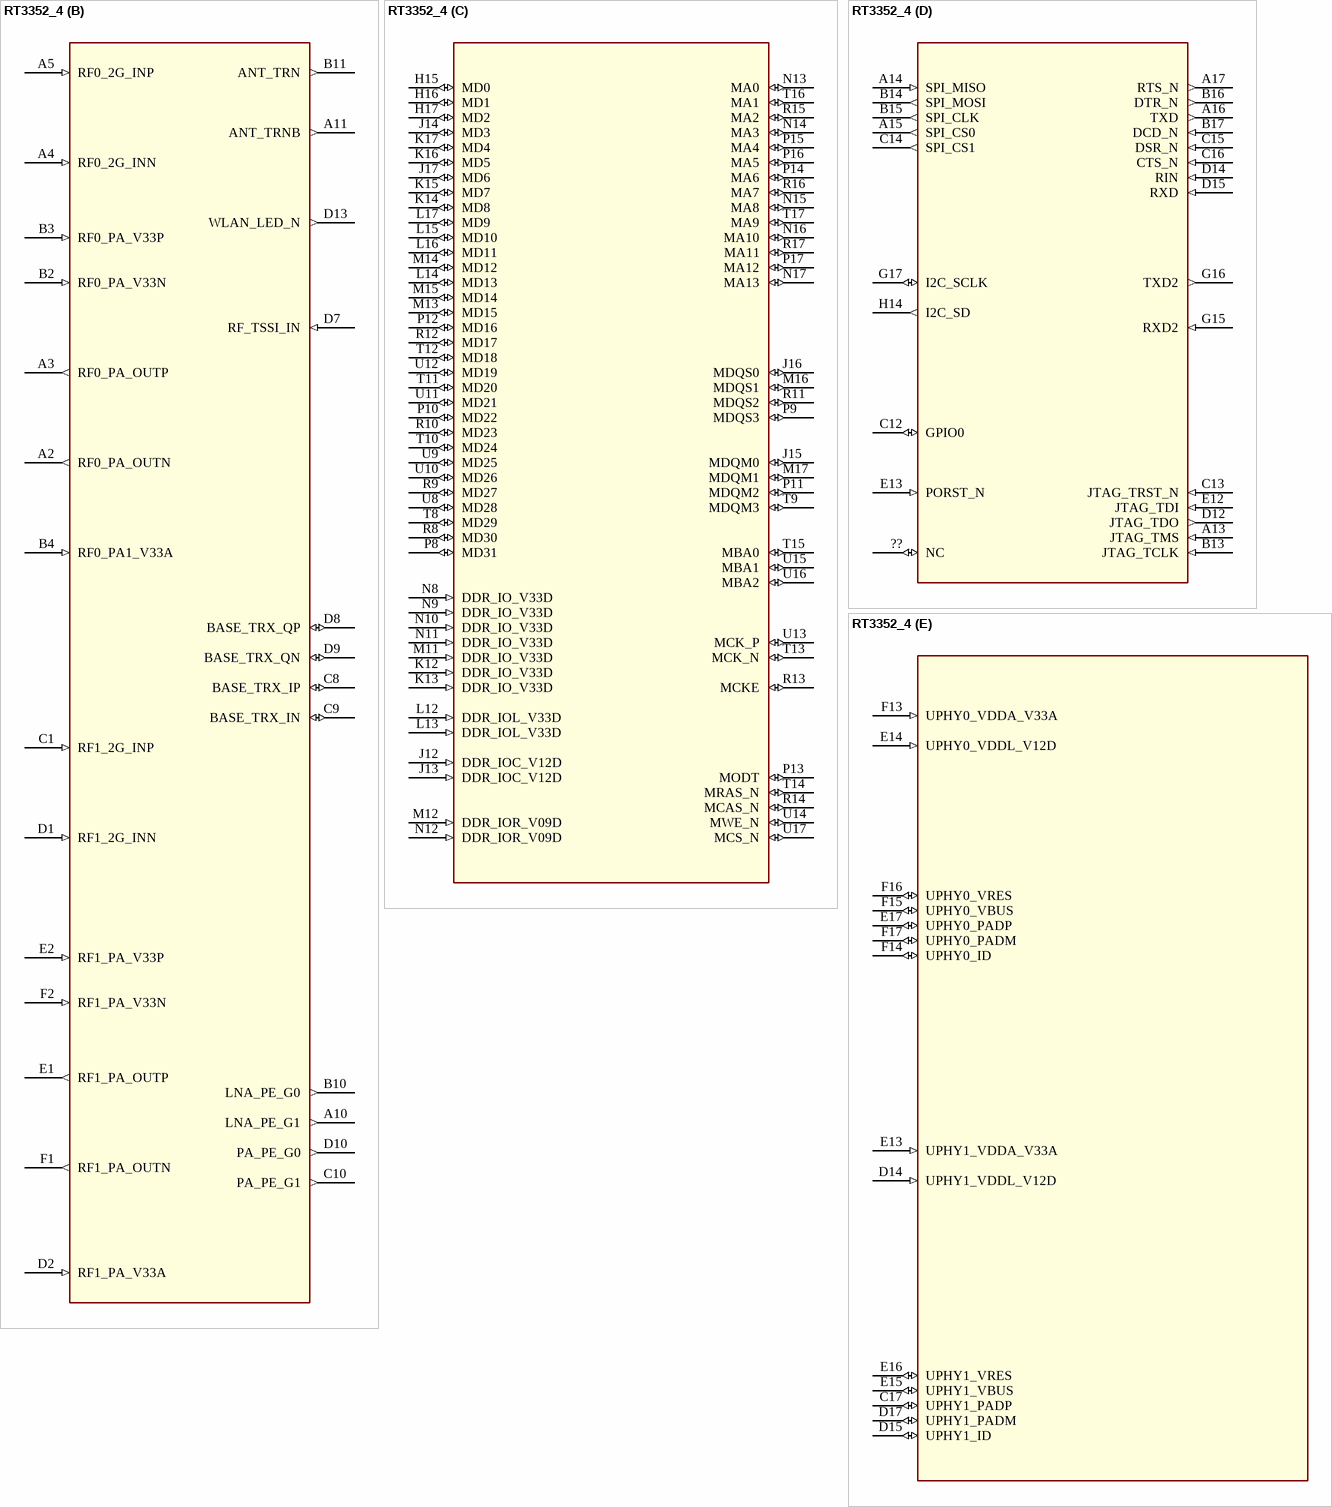
[diagram p90: symbol RT3352_4]

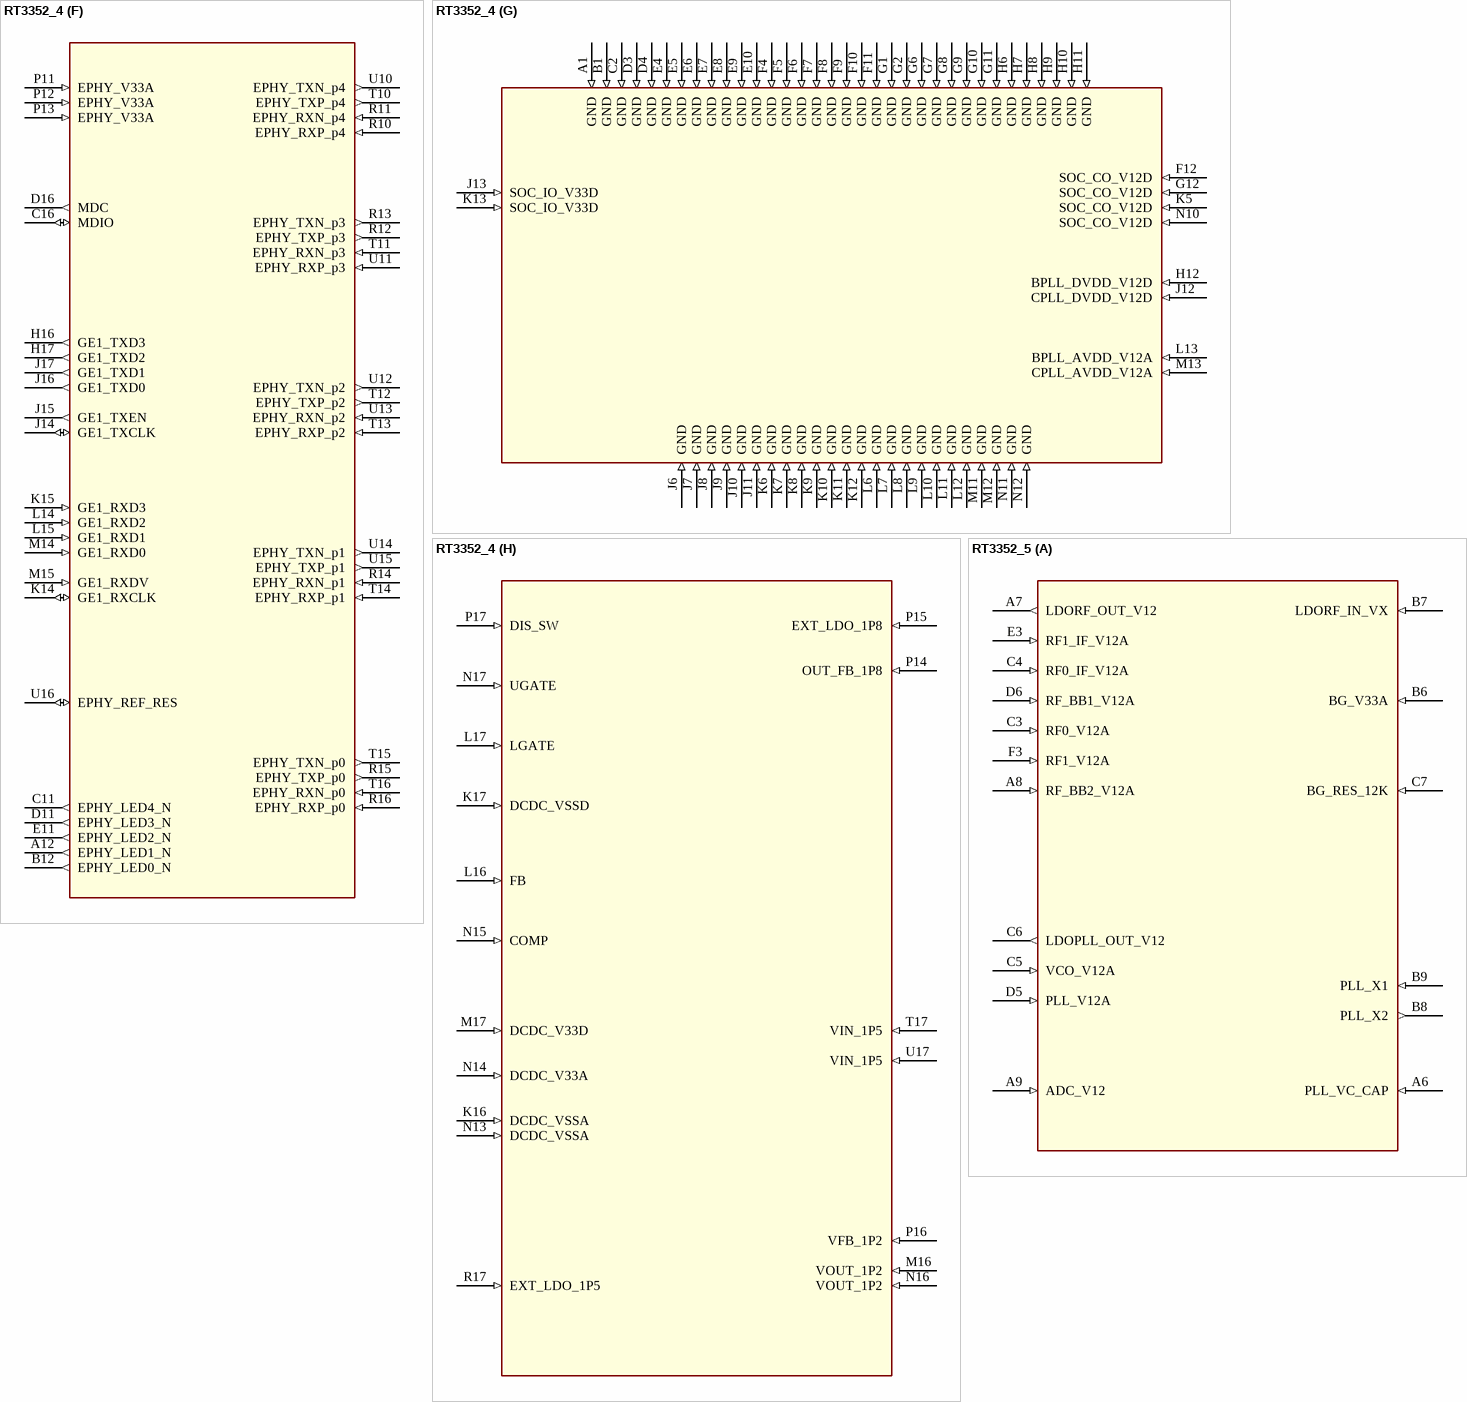
[diagram p91: symbols RT3352_4 to RT3352_5]

## RT3352_4
designator U?
part A pins: A6 PLL_VC_CAP (in), A7 LDORF_OUT_V12 (out), A8 RF_BB2_V12A (in), A9 ADC_V12 (in), B6 BG_V33A (in), B7 LDORF_IN_VX (in), B8 PLL_X2 (out), B9 PLL_X1 (in), C3 RF0_V12A (in), C4 RF0_IF_V12A (in), C5 VCO_V12A (in), C6 LDOPLL_OUT_V12 (out), C7 BG_RES_12K (in), D5 PLL_V12A (in), D6 RF_BB1_V12A (in), E3 RF1_IF_V12A (in), F3 RF1_V12A (in)
part B pins: A2 RF0_PA_OUTN (out), A3 RF0_PA_OUTP (out), A4 RF0_2G_INN (in), A5 RF0_2G_INP (in), A10 LNA_PE_G1 (out), A11 ANT_TRNB (out), B2 RF0_PA_V33N (in), B3 RF0_PA_V33P (in), B4 RF0_PA1_V33A (in), B10 LNA_PE_G0 (out), B11 ANT_TRN (out), C1 RF1_2G_INP (in), C8 BASE_TRX_IP (io), C9 BASE_TRX_IN (io), C10 PA_PE_G1 (out), D1 RF1_2G_INN (in), D2 RF1_PA_V33A (in), D7 RF_TSSI_IN (in), D8 BASE_TRX_QP (io), D9 BASE_TRX_QN (io), D10 PA_PE_G0 (out), D13 WLAN_LED_N (out), E1 RF1_PA_OUTP (out), E2 RF1_PA_V33P (in), F1 RF1_PA_OUTN (out), F2 RF1_PA_V33N (in)
part C pins: H15 MD0 (io), H16 MD1 (io), H17 MD2 (io), J12 DDR_IOC_V12D (in), J13 DDR_IOC_V12D (in), J14 MD3 (io), J15 MDQM0 (io), J16 MDQS0 (io), J17 MD6 (io), K12 DDR_IO_V33D (in), K13 DDR_IO_V33D (in), K14 MD8 (io), K15 MD7 (io), K16 MD5 (io), K17 MD4 (io), L12 DDR_IOL_V33D (in), L13 DDR_IOL_V33D (in), L14 MD13 (io), L15 MD10 (io), L16 MD11 (io), L17 MD9 (io), M11 DDR_IO_V33D (in), M12 DDR_IOR_V09D (in), M13 MD15 (io), M14 MD12 (io), M15 MD14 (io), M16 MDQS1 (io), M17 MDQM1 (io), N8 DDR_IO_V33D (in), N9 DDR_IO_V33D (in), N10 DDR_IO_V33D (in), N11 DDR_IO_V33D (in), N12 DDR_IOR_V09D (in), N13 MA0 (io), N14 MA3 (io), N15 MA8 (io), N16 MA10 (io), N17 MA13 (io), P8 MD31 (io), P9 MDQS3 (io), P10 MD22 (io), P11 MDQM2 (io), P12 MD16 (io), P13 MODT (io), P14 MA6 (io), P15 MA4 (io), P16 MA5 (io), P17 MA12 (io), R8 MD30 (io), R9 MD27 (io), R10 MD23 (io), R11 MDQS2 (io), R12 MD17 (io), R13 MCKE (io), R14 MCAS_N (io), R15 MA2 (io), R16 MA7 (io), R17 MA11 (io), T8 MD29 (io), T9 MDQM3 (io), T10 MD24 (io), T11 MD20 (io), T12 MD18 (io), T13 MCK_N (io), T14 MRAS_N (io), T15 MBA0 (io), T16 MA1 (io), T17 MA9 (io), U8 MD28 (io), U9 MD25 (io), U10 MD26 (io), U11 MD21 (io), U12 MD19 (io), U13 MCK_P (io), U14 MWE_N (io), U15 MBA1 (io), U16 MBA2 (io), U17 MCS_N (io)
part D pins: ?? NC (io), A13 JTAG_TMS (in), A14 SPI_MISO (in), A15 SPI_CS0 (out), A16 TXD (out), A17 RTS_N (out), B13 JTAG_TCLK (in), B14 SPI_MOSI (out), B15 SPI_CLK (out), B16 DTR_N (out), B17 DCD_N (in), C12 GPIO0 (io), C13 JTAG_TRST_N (in), C14 SPI_CS1 (out), C15 DSR_N (in), C16 CTS_N (in), D12 JTAG_TDO (out), D14 RIN (in), D15 RXD (in), E12 JTAG_TDI (in), E13 PORST_N (in), G15 RXD2 (in), G16 TXD2 (out), G17 I2C_SCLK (io), H14 I2C_SD (out)
part E pins: C17 UPHY1_PADP (io), D14 UPHY1_VDDL_V12D (in), D15 UPHY1_ID (io), D17 UPHY1_PADM (io), E13 UPHY1_VDDA_V33A (in), E14 UPHY0_VDDL_V12D (in), E15 UPHY1_VBUS (io), E16 UPHY1_VRES (io), E17 UPHY0_PADP (io), F13 UPHY0_VDDA_V33A (in), F14 UPHY0_ID (io), F15 UPHY0_VBUS (io), F16 UPHY0_VRES (io), F17 UPHY0_PADM (io)
part F pins: A12 EPHY_LED1_N (out), B12 EPHY_LED0_N (out), C11 EPHY_LED4_N (out), C16 MDIO (io), D11 EPHY_LED3_N (out), D16 MDC (out), E11 EPHY_LED2_N (out), H16 GE1_TXD3 (out), H17 GE1_TXD2 (out), J14 GE1_TXCLK (io), J15 GE1_TXEN (out), J16 GE1_TXD0 (out), J17 GE1_TXD1 (out), K14 GE1_RXCLK (io), K15 GE1_RXD3 (in), L14 GE1_RXD2 (in), L15 GE1_RXD1 (in), M14 GE1_RXD0 (in), M15 GE1_RXDV (in), P11 EPHY_V33A (in), P12 EPHY_V33A (in), P13 EPHY_V33A (in), R10 EPHY_RXP_p4 (in), R11 EPHY_RXN_p4 (in), R12 EPHY_TXP_p3 (out), R13 EPHY_TXN_p3 (out), R14 EPHY_RXN_p1 (in), R15 EPHY_TXP_p0 (out), R16 EPHY_RXP_p0 (in), T10 EPHY_TXP_p4 (out), T11 EPHY_RXN_p3 (in), T12 EPHY_TXP_p2 (out), T13 EPHY_RXP_p2 (in), T14 EPHY_RXP_p1 (in), T15 EPHY_TXN_p0 (out), T16 EPHY_RXN_p0 (in), U10 EPHY_TXN_p4 (out), U11 EPHY_RXP_p3 (in), U12 EPHY_TXN_p2 (out), U13 EPHY_RXN_p2 (in), U14 EPHY_TXN_p1 (out), U15 EPHY_TXP_p1 (out), U16 EPHY_REF_RES (io)
part G pins: A1 GND (in), B1 GND (in), C2 GND (in), D3 GND (in), D4 GND (in), E4 GND (in), E5 GND (in), E6 GND (in), E7 GND (in), E8 GND (in), E9 GND (in), E10 GND (in), F4 GND (in), F5 GND (in), F6 GND (in), F7 GND (in), F8 GND (in), F9 GND (in), F10 GND (in), F11 GND (in), F12 SOC_CO_V12D (in), G1 GND (in), G2 GND (in), G6 GND (in), G7 GND (in), G8 GND (in), G9 GND (in), G10 GND (in), G11 GND (in), G12 SOC_CO_V12D (in), H6 GND (in), H7 GND (in), H8 GND (in), H9 GND (in), H10 GND (in), H11 GND (in), H12 BPLL_DVDD_V12D (in), J6 GND (in), J7 GND (in), J8 GND (in), J9 GND (in), J10 GND (in), J11 GND (in), J12 CPLL_DVDD_V12D (in), J13 SOC_IO_V33D (in), K5 SOC_CO_V12D (in), K6 GND (in), K7 GND (in), K8 GND (in), K9 GND (in), K10 GND (in), K11 GND (in), K12 GND (in), K13 SOC_IO_V33D (in), L6 GND (in), L7 GND (in), L8 GND (in), L9 GND (in), L10 GND (in), L11 GND (in), L12 GND (in), L13 BPLL_AVDD_V12A (in), M11 GND (in), M12 GND (in), M13 CPLL_AVDD_V12A (in), N10 SOC_CO_V12D (in), N11 GND (in), N12 GND (in)
part H pins: K16 DCDC_VSSA (in), K17 DCDC_VSSD (in), L16 FB (in), L17 LGATE (in), M16 VOUT_1P2 (in), M17 DCDC_V33D (in), N13 DCDC_VSSA (in), N14 DCDC_V33A (in), N15 COMP (in), N16 VOUT_1P2 (in), N17 UGATE (in), P14 OUT_FB_1P8 (in), P15 EXT_LDO_1P8 (in), P16 VFB_1P2 (in), P17 DIS_SW (in), R17 EXT_LDO_1P5 (in), T17 VIN_1P5 (in), U17 VIN_1P5 (in)

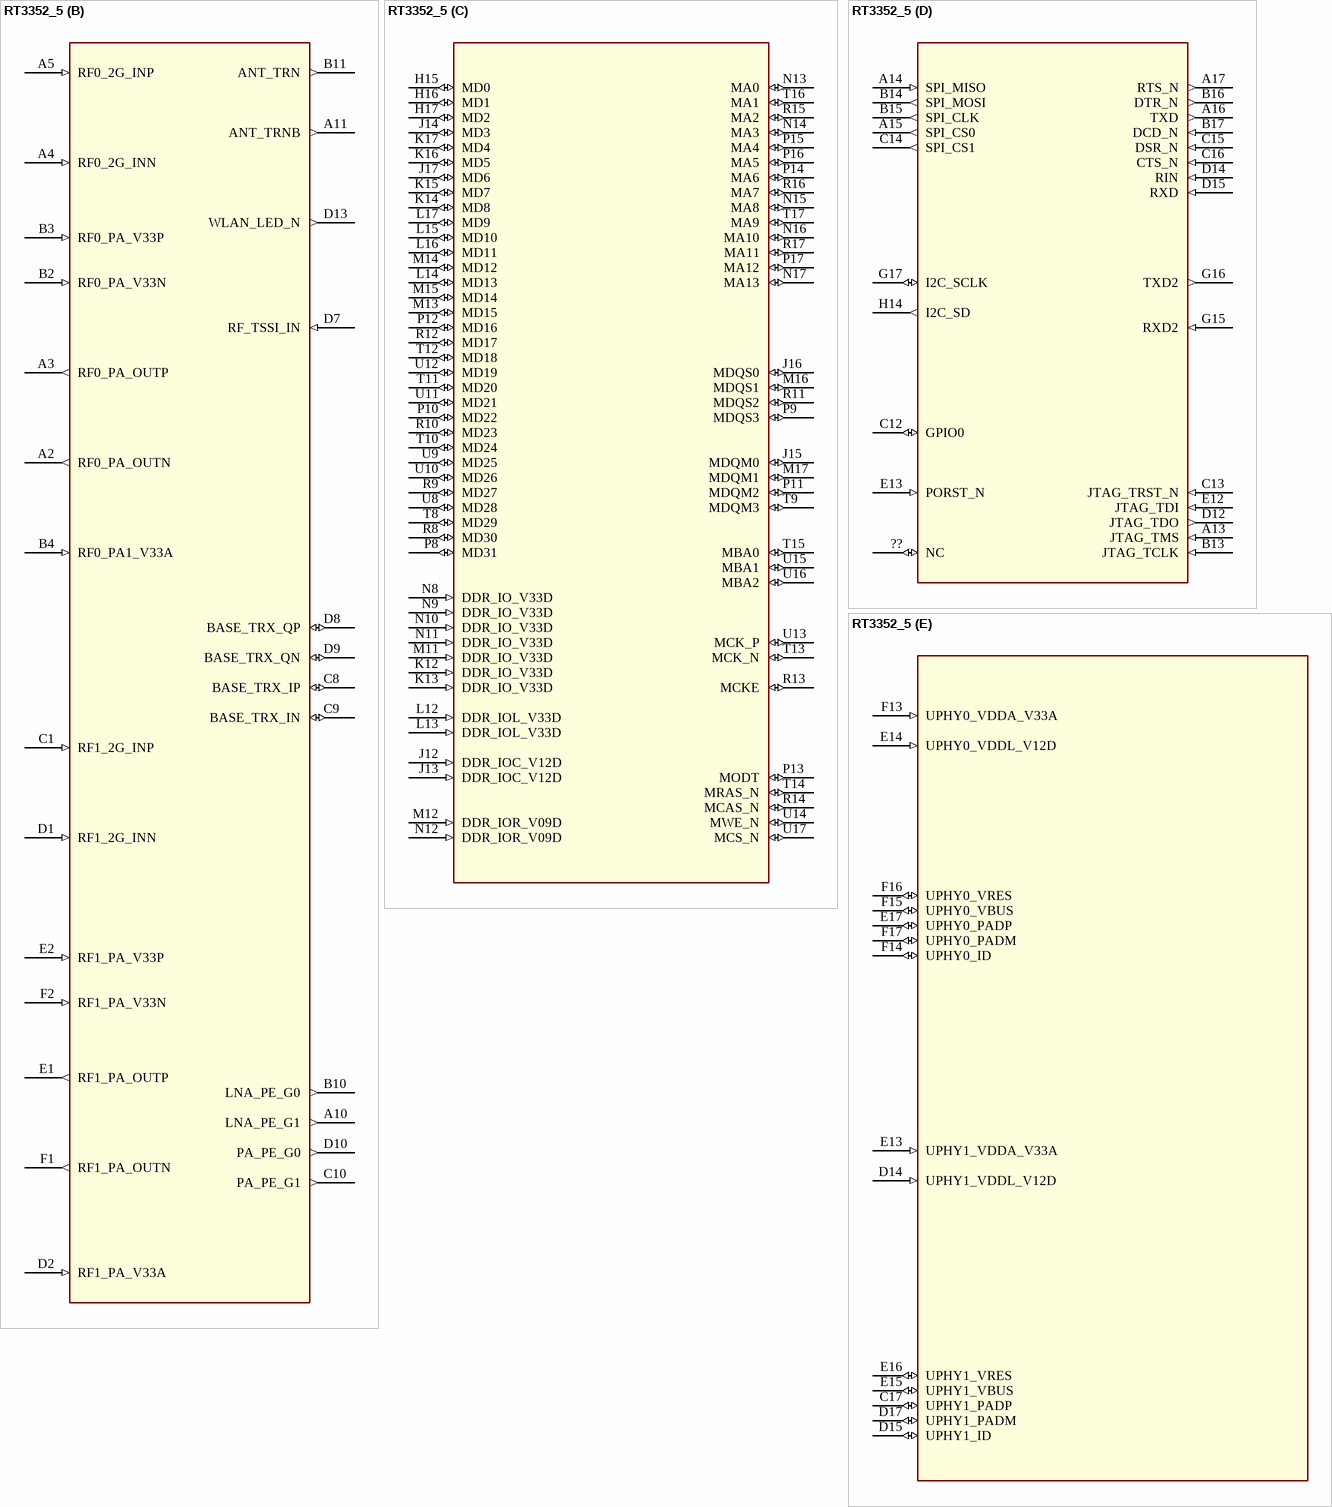
[diagram p92: symbol RT3352_5]

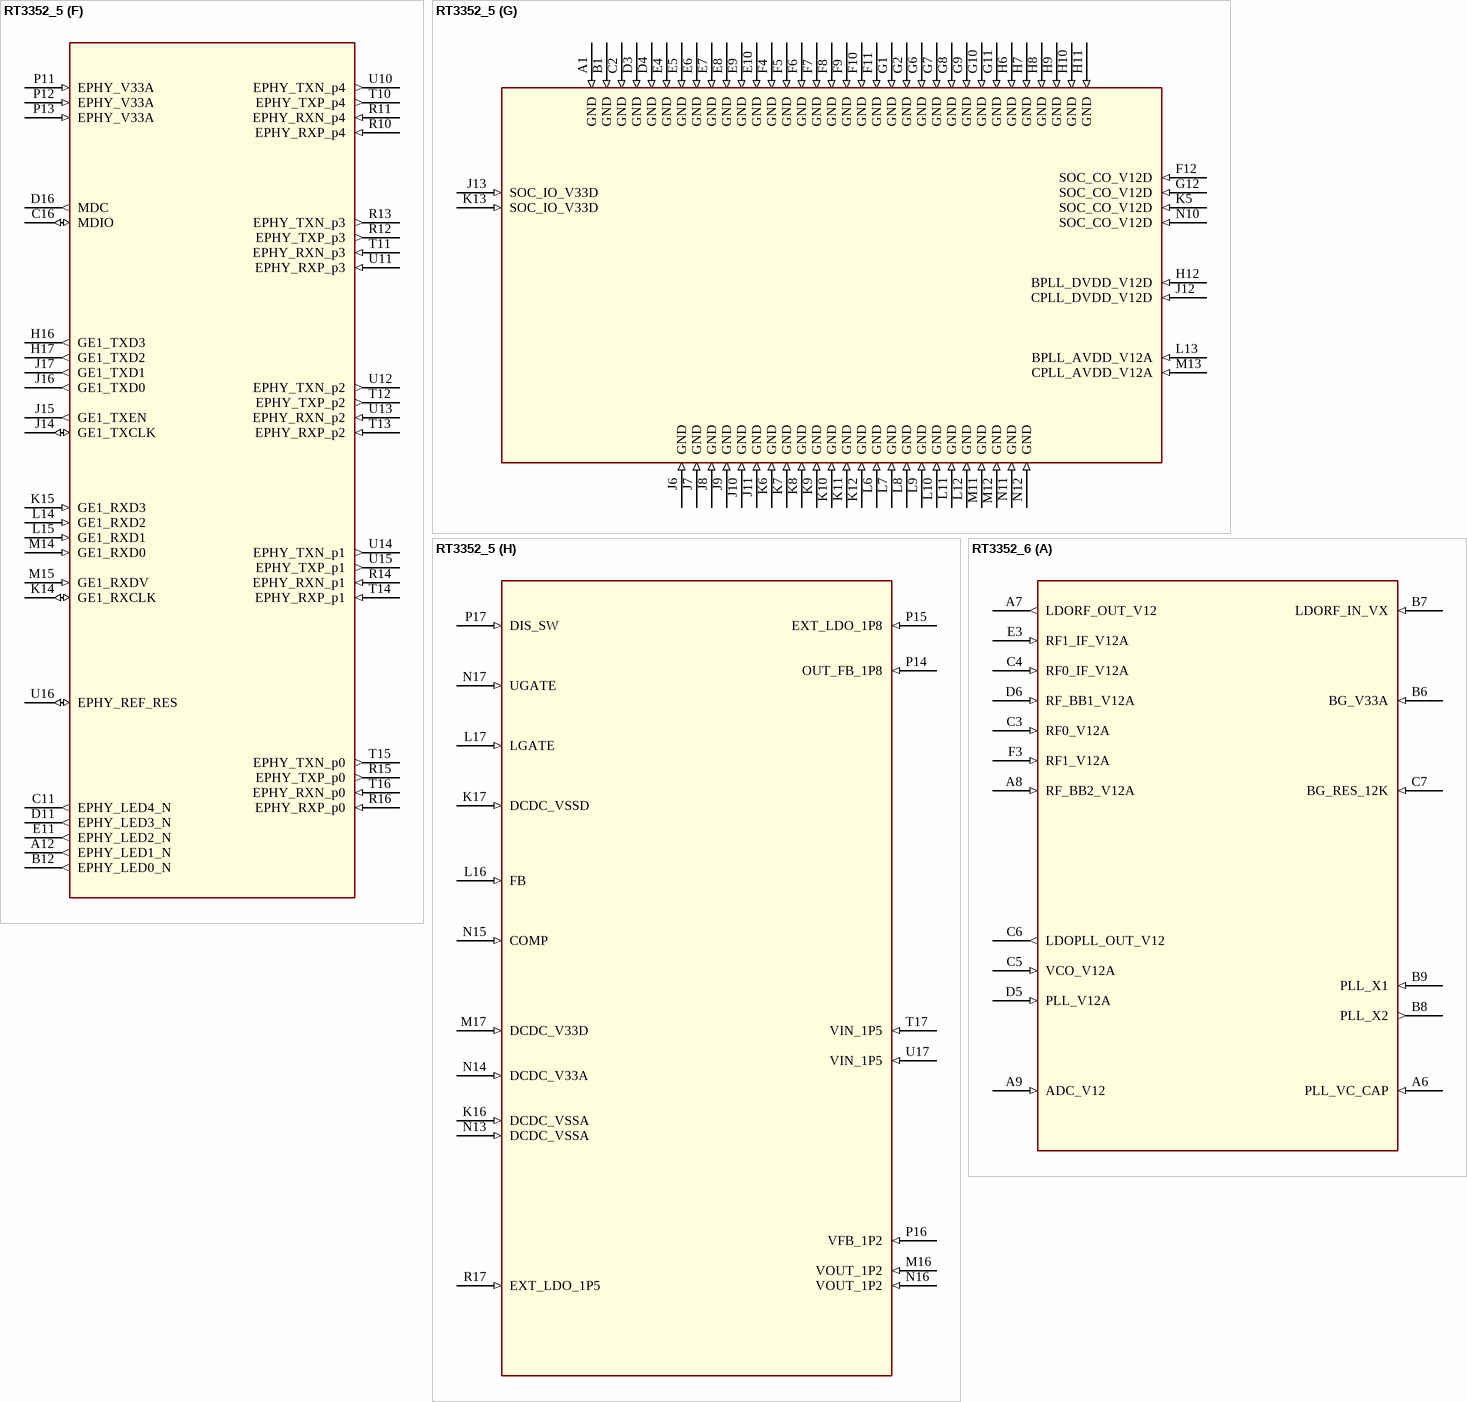
[diagram p93: symbols RT3352_5 to RT3352_6]